# Altium integrated library Xilinx Spartan-3E.IntLib: 220 symbols (part 21 of 30)
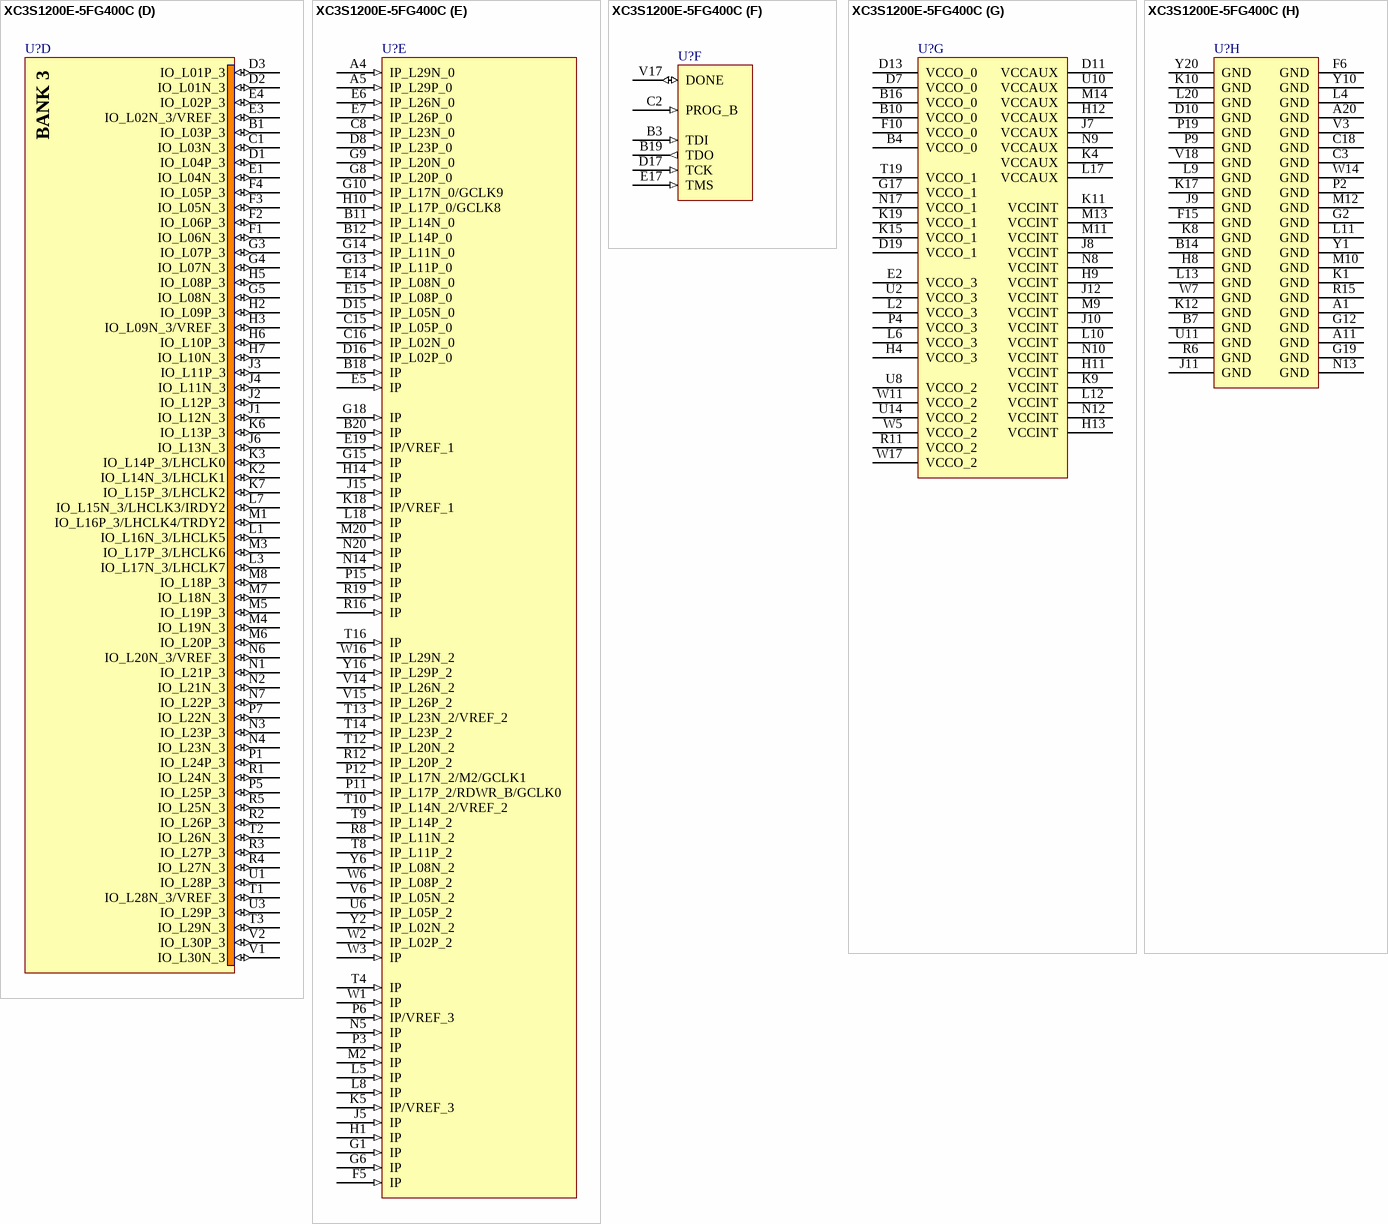
[diagram p214: symbol XC3S1200E-5FG400C]

## XC3S1200E-5FG400C
designator U?
Spartan-3E 1.2V FPGA, 304 User I/Os, 400-Ball FBGA, High Performance, Commercial Grade; Published: 6-Jun-2005; LatestRevisionDate: 30-Oct-2009; LatestRevisionNote: Updated to datasheet version 3.8 Aug-2009.; DatasheetVersion: ver3.8, Aug-2009; PackageVersion: ver1.0, Mar-2005; PackageReference: FG400; Publisher: Altium Limited; PackageDescription: 400-Ball Fine Pitch Ball Grid Array 1.00 mm Pitch (FG400); Code_JEDEC: MS-034-AAH-1; Code_IPC: BGA100P20X20-400; ComponentLink1Description: Spartan-3E Datasheet; ComponentLink1URL: http://www.xilinx.com/support/documentation/data_sheets/ds312.pdf; ComponentLink2Description: FG400 Package Drawing; ComponentLink2URL: http://www.xilinx.com/support/documentation/package_specs/fg400.pdf; ComponentLink3Description: Spartan-3E Documents; ComponentLink3URL: http://www.xilinx.com/support/documentation/spartan-3e.htm; ComponentLink4Description: Xilinx.com Home; ComponentLink4URL: http://www.xilinx.com
footprint FG400 (BGA, 400-Leads, Body 21x21mm, Pitch 1mm)
signal-integrity model XC3S1200E_FG400 (Spartan-3E)
part A pins: A2 IO_L31N_0 (io), A3 IO (io), A6 IO_L25N_0 (io), A7 IO_L25P_0 (io), A8 IO (io), A9 IO_L18N_0/GCLK11 (io), A10 IO_L18P_0/GCLK10 (io), A12 IO (io), A13 IO_L09N_0/VREF_0 (io), A14 IO_L09P_0 (io), A15 IO_L06N_0 (io), A16 IO_L04P_0 (io), A17 IO_L04N_0 (io), A18 IO_L03N_0/VREF_0 (io), A19 IO_L03P_0 (io), B2 IO_L31P_0 (io), B5 IO_L27N_0 (io), B6 IO_L27P_0 (io), B8 IO_L22N_0/VREF_0 (io), B9 IO_L22P_0 (io), B13 IO_L10N_0 (io), B15 IO_L06P_0 (io), B17 IO_L01N_0 (io), C4 IO_L32P_0 (io), C5 IO_L30N_0/VREF_0 (io), C6 IO_L28P_0 (io), C7 IO (io), C9 IO_L21N_0 (io), C10 IO (io), C11 IO/VREF_0 (io), C12 IO_L12N_0 (io), C13 IO_L10P_0 (io), C14 IO_L07N_0 (io), C17 IO_L01P_0 (io), D4 IO_L32N_0/HSWAP (io), D5 IO_L30P_0 (io), D6 IO_L28N_0 (io), D9 IO_L21P_0 (io), D12 IO_L12P_0 (io), D14 IO_L07P_0 (io), E8 IO (io), E9 IO_L19P_0 (io), E10 IO_L16N_0/GCLK7 (io), E11 IO_L16P_0/GCLK6 (io), E12 IO_L13N_0 (io), E13 IO (io), E16 IO (io), F7 IO_L24N_0/VREF_0 (io), F8 IO_L24P_0 (io), F9 IO_L19N_0 (io), F11 IO_L15P_0/GCLK4 (io), F12 IO_L13P_0 (io), F13 IO (io), F14 IO (io), G7 IO (io), G11 IO_L15N_0/GCLK5 (io)
part B pins: C19 IO_L30N_1/LDC2 (io), C20 IO_L30P_1/LDC1 (io), D18 IO_L29N_1/LDC0 (io), D20 IO_L28N_1 (io), E18 IO_L29P_1/HDC (io), E20 IO_L28P_1 (io), F16 IO_L25P_1 (io), F17 IO_L27P_1 (io), F18 IO_L27N_1 (io), F19 IO_L26N_1 (io), F20 IO_L26P_1 (io), G16 IO_L25N_1 (io), G20 IO_L24P_1 (io), H15 IO_L22N_1 (io), H16 IO_L22P_1 (io), H17 IO_L23P_1 (io), H18 IO_L23N_1 (io), H19 IO_L21N_1 (io), H20 IO_L24N_1/VREF_1 (io), J13 IO_L19N_1/A0 (io), J14 IO_L19P_1 (io), J16 IO_L18P_1/A2 (io), J17 IO_L20N_1 (io), J18 IO_L20P_1 (io), J19 IO_L21P_1 (io), J20 IO_L17N_1/A3/RHCLK7 (io), K13 IO_L16P_1/A6/RHCLK4/IRDY1 (io), K14 IO_L16N_1/A5/RHCLK5 (io), K16 IO_L18N_1/A1 (io), K20 IO_L17P_1/A4/RHCLK6 (io), L14 IO_L15N_1/A7/RHCLK3/TRDY1 (io), L15 IO_L15P_1/A8/RHCLK2 (io), L16 IO_L14N_1/A9/RHCLK1 (io), L19 IO_L13N_1/VREF_1 (io), M15 IO_L11P_1 (io), M16 IO_L14P_1/A10/RHCLK0 (io), M17 IO_L12P_1/A12 (io), M18 IO_L12N_1/A11 (io), M19 IO_L13P_1 (io), N15 IO_L11N_1 (io), N16 IO_L09P_1 (io), N18 IO_L10P_1 (io), N19 IO_L10N_1 (io), P16 IO_L09N_1 (io), P17 IO_L07P_1 (io), P18 IO_L07N_1 (io), P20 IO_L08N_1/VREF_1 (io), R17 IO_L05P_1 (io), R18 IO_L05N_1 (io), R20 IO_L08P_1 (io), T17 IO_L02P_1/A14 (io), T18 IO_L02N_1/A13 (io), T20 IO_L06N_1 (io), U17 IO_L01P_1/A16 (io), U18 IO_L01N_1/A15 (io), U19 IO_L03P_1 (io), U20 IO_L06P_1 (io), V19 IO_L03N_1/VREF_1 (io), V20 IO_L04P_1 (io), W20 IO_L04N_1 (io)
part C pins: N11 IO/D5 (io), P8 IO (io), P10 IO_L16N_2/D3/GCLK15 (io), P13 IO (io), P14 IO_L25N_2 (io), R7 IO_L09N_2/VREF_2 (io), R9 IO (io), R10 IO_L16P_2/D4/GCLK14 (io), R13 IO (io), R14 IO_L25P_2 (io), T5 IO_L06P_2 (io), T6 IO_L06N_2 (io), T7 IO_L09P_2 (io), T11 IO/M1 (io), T15 IO_L28N_2 (io), U4 IO_L01P_2/CSO_B (io), U5 IO_L03P_2/DOUT/BUSY (io), U7 IO_L07N_2 (io), U9 IO_L12N_2 (io), U12 IO_L21N_2 (io), U13 IO_L24N_2 (io), U15 IO_L28P_2 (io), U16 IO_L30P_2/A21 (io), V4 IO_L01N_2/INIT_B (io), V5 IO_L03N_2/MOSI/CSI_B (io), V7 IO_L07P_2 (io), V8 IO_L10N_2 (io), V9 IO_L12P_2 (io), V10 IO_L18P_2/D2/GCLK2 (io), V11 IO_L18N_2/D1/GCLK3 (io), V12 IO_L21P_2 (io), V13 IO_L24P_2 (io), V16 IO_L30N_2/A20 (io), W4 IO_L04P_2 (io), W8 IO_L10P_2 (io), W9 IO_L15P_2/D7/GCLK12 (io), W10 IO_L15N_2/D6/GCLK13 (io), W12 IO_L22N_2/VREF_2 (io), W13 IO_L22P_2 (io), W15 IO (io), W18 IO_L31P_2/VS2/A19 (io), W19 IO_L32N_2/CCLK (io), Y3 IO/VREF_2 (io), Y4 IO_L04N_2 (io), Y5 IO (io), Y7 IO (io), Y8 IO_L13N_2 (io), Y9 IO_L13P_2 (io), Y11 IO_L19P_2/M0 (io), Y12 IO_L19N_2/DIN/D0 (io), Y13 IO (io), Y14 IO_L27N_2/A22 (io), Y15 IO_L27P_2/A23 (io), Y17 IO/VREF_2 (io), Y18 IO_L31N_2/VS1/A18 (io), Y19 IO_L32P_2/VS0/A17 (io)
part D pins: B1 IO_L03P_3 (io), C1 IO_L03N_3 (io), D1 IO_L04P_3 (io), D2 IO_L01N_3 (io), D3 IO_L01P_3 (io), E1 IO_L04N_3 (io), E3 IO_L02N_3/VREF_3 (io), E4 IO_L02P_3 (io), F1 IO_L06N_3 (io), F2 IO_L06P_3 (io), F3 IO_L05N_3 (io), F4 IO_L05P_3 (io), G3 IO_L07P_3 (io), G4 IO_L07N_3 (io), G5 IO_L08N_3 (io), H2 IO_L09P_3 (io), H3 IO_L09N_3/VREF_3 (io), H5 IO_L08P_3 (io), H6 IO_L10P_3 (io), H7 IO_L10N_3 (io), J1 IO_L12N_3 (io), J2 IO_L12P_3 (io), J3 IO_L11P_3 (io), J4 IO_L11N_3 (io), J6 IO_L13N_3 (io), K2 IO_L14N_3/LHCLK1 (io), K3 IO_L14P_3/LHCLK0 (io), K6 IO_L13P_3 (io), K7 IO_L15P_3/LHCLK2 (io), L1 IO_L16N_3/LHCLK5 (io), L3 IO_L17N_3/LHCLK7 (io), L7 IO_L15N_3/LHCLK3/IRDY2 (io), M1 IO_L16P_3/LHCLK4/TRDY2 (io), M3 IO_L17P_3/LHCLK6 (io), M4 IO_L19N_3 (io), M5 IO_L19P_3 (io), M6 IO_L20P_3 (io), M7 IO_L18N_3 (io), M8 IO_L18P_3 (io), N1 IO_L21P_3 (io), N2 IO_L21N_3 (io), N3 IO_L23P_3 (io), N4 IO_L23N_3 (io), N6 IO_L20N_3/VREF_3 (io), N7 IO_L22P_3 (io), P1 IO_L24P_3 (io), P5 IO_L25P_3 (io), P7 IO_L22N_3 (io), R1 IO_L24N_3 (io), R2 IO_L26P_3 (io), R3 IO_L27P_3 (io), R4 IO_L27N_3 (io), R5 IO_L25N_3 (io), T1 IO_L28N_3/VREF_3 (io), T2 IO_L26N_3 (io), T3 IO_L29N_3 (io), U1 IO_L28P_3 (io), U3 IO_L29P_3 (io), V1 IO_L30N_3 (io), V2 IO_L30P_3 (io)
part E pins: A4 IP_L29N_0 (in), A5 IP_L29P_0 (in), B11 IP_L14N_0 (in), B12 IP_L14P_0 (in), B18 IP (in), B20 IP (in), C8 IP_L23N_0 (in), C15 IP_L05P_0 (in), C16 IP_L02N_0 (in), D8 IP_L23P_0 (in), D15 IP_L05N_0 (in), D16 IP_L02P_0 (in), E5 IP (in), E6 IP_L26N_0 (in), E7 IP_L26P_0 (in), E14 IP_L08N_0 (in), E15 IP_L08P_0 (in), E19 IP/VREF_1 (in), F5 IP (in), G1 IP (in), G6 IP (in), G8 IP_L20P_0 (in), G9 IP_L20N_0 (in), G10 IP_L17N_0/GCLK9 (in), G13 IP_L11P_0 (in), G14 IP_L11N_0 (in), G15 IP (in), G18 IP (in), H1 IP (in), H10 IP_L17P_0/GCLK8 (in), H14 IP (in), J5 IP (in), J15 IP (in), K5 IP/VREF_3 (in), K18 IP/VREF_1 (in), L5 IP (in), L8 IP (in), L18 IP (in), M2 IP (in), M20 IP (in), N5 IP (in), N14 IP (in), N20 IP (in), P3 IP (in), P6 IP/VREF_3 (in), P11 IP_L17P_2/RDWR_B/GCLK0 (in), P12 IP_L17N_2/M2/GCLK1 (in), P15 IP (in), R8 IP_L11N_2 (in), R12 IP_L20P_2 (in), R16 IP (in), R19 IP (in), T4 IP (in), T8 IP_L11P_2 (in), T9 IP_L14P_2 (in), T10 IP_L14N_2/VREF_2 (in), T12 IP_L20N_2 (in), T13 IP_L23N_2/VREF_2 (in), T14 IP_L23P_2 (in), T16 IP (in), U6 IP_L05P_2 (in), V6 IP_L05N_2 (in), V14 IP_L26N_2 (in), V15 IP_L26P_2 (in), W1 IP (in), W2 IP_L02P_2 (in), W3 IP (in), W6 IP_L08P_2 (in), W16 IP_L29N_2 (in), Y2 IP_L02N_2 (in), Y6 IP_L08N_2 (in), Y16 IP_L29P_2 (in)
part F pins: B3 TDI (in), B19 TDO (out), C2 PROG_B (in), D17 TCK (in), E17 TMS (in), V17 DONE (io)
part G pins: B4 VCCO_0 (power), B10 VCCO_0 (power), B16 VCCO_0 (power), D7 VCCO_0 (power), D11 VCCAUX (power), D13 VCCO_0 (power), D19 VCCO_1 (power), E2 VCCO_3 (power), F10 VCCO_0 (power), G17 VCCO_1 (power), H4 VCCO_3 (power), H9 VCCINT (power), H11 VCCINT (power), H12 VCCAUX (power), H13 VCCINT (power), J7 VCCAUX (power), J8 VCCINT (power), J10 VCCINT (power), J12 VCCINT (power), K4 VCCAUX (power), K9 VCCINT (power), K11 VCCINT (power), K15 VCCO_1 (power), K19 VCCO_1 (power), L2 VCCO_3 (power), L6 VCCO_3 (power), L10 VCCINT (power), L12 VCCINT (power), L17 VCCAUX (power), M9 VCCINT (power), M11 VCCINT (power), M13 VCCINT (power), M14 VCCAUX (power), N8 VCCINT (power), N9 VCCAUX (power), N10 VCCINT (power), N12 VCCINT (power), N17 VCCO_1 (power), P4 VCCO_3 (power), R11 VCCO_2 (power), T19 VCCO_1 (power), U2 VCCO_3 (power), U8 VCCO_2 (power), U10 VCCAUX (power), U14 VCCO_2 (power), W5 VCCO_2 (power), W11 VCCO_2 (power), W17 VCCO_2 (power)
part H pins: A1 GND (power), A11 GND (power), A20 GND (power), B7 GND (power), B14 GND (power), C3 GND (power), C18 GND (power), D10 GND (power), F6 GND (power), F15 GND (power), G2 GND (power), G12 GND (power), G19 GND (power), H8 GND (power), J9 GND (power), J11 GND (power), K1 GND (power), K8 GND (power), K10 GND (power), K12 GND (power), K17 GND (power), L4 GND (power), L9 GND (power), L11 GND (power), L13 GND (power), L20 GND (power), M10 GND (power), M12 GND (power), N13 GND (power), P2 GND (power), P9 GND (power), P19 GND (power), R6 GND (power), R15 GND (power), U11 GND (power), V3 GND (power), V18 GND (power), W7 GND (power), W14 GND (power), Y1 GND (power), Y10 GND (power), Y20 GND (power)
part A text: BANK 0
part B text: BANK 1
part C text: BANK 2
part D text: BANK 3

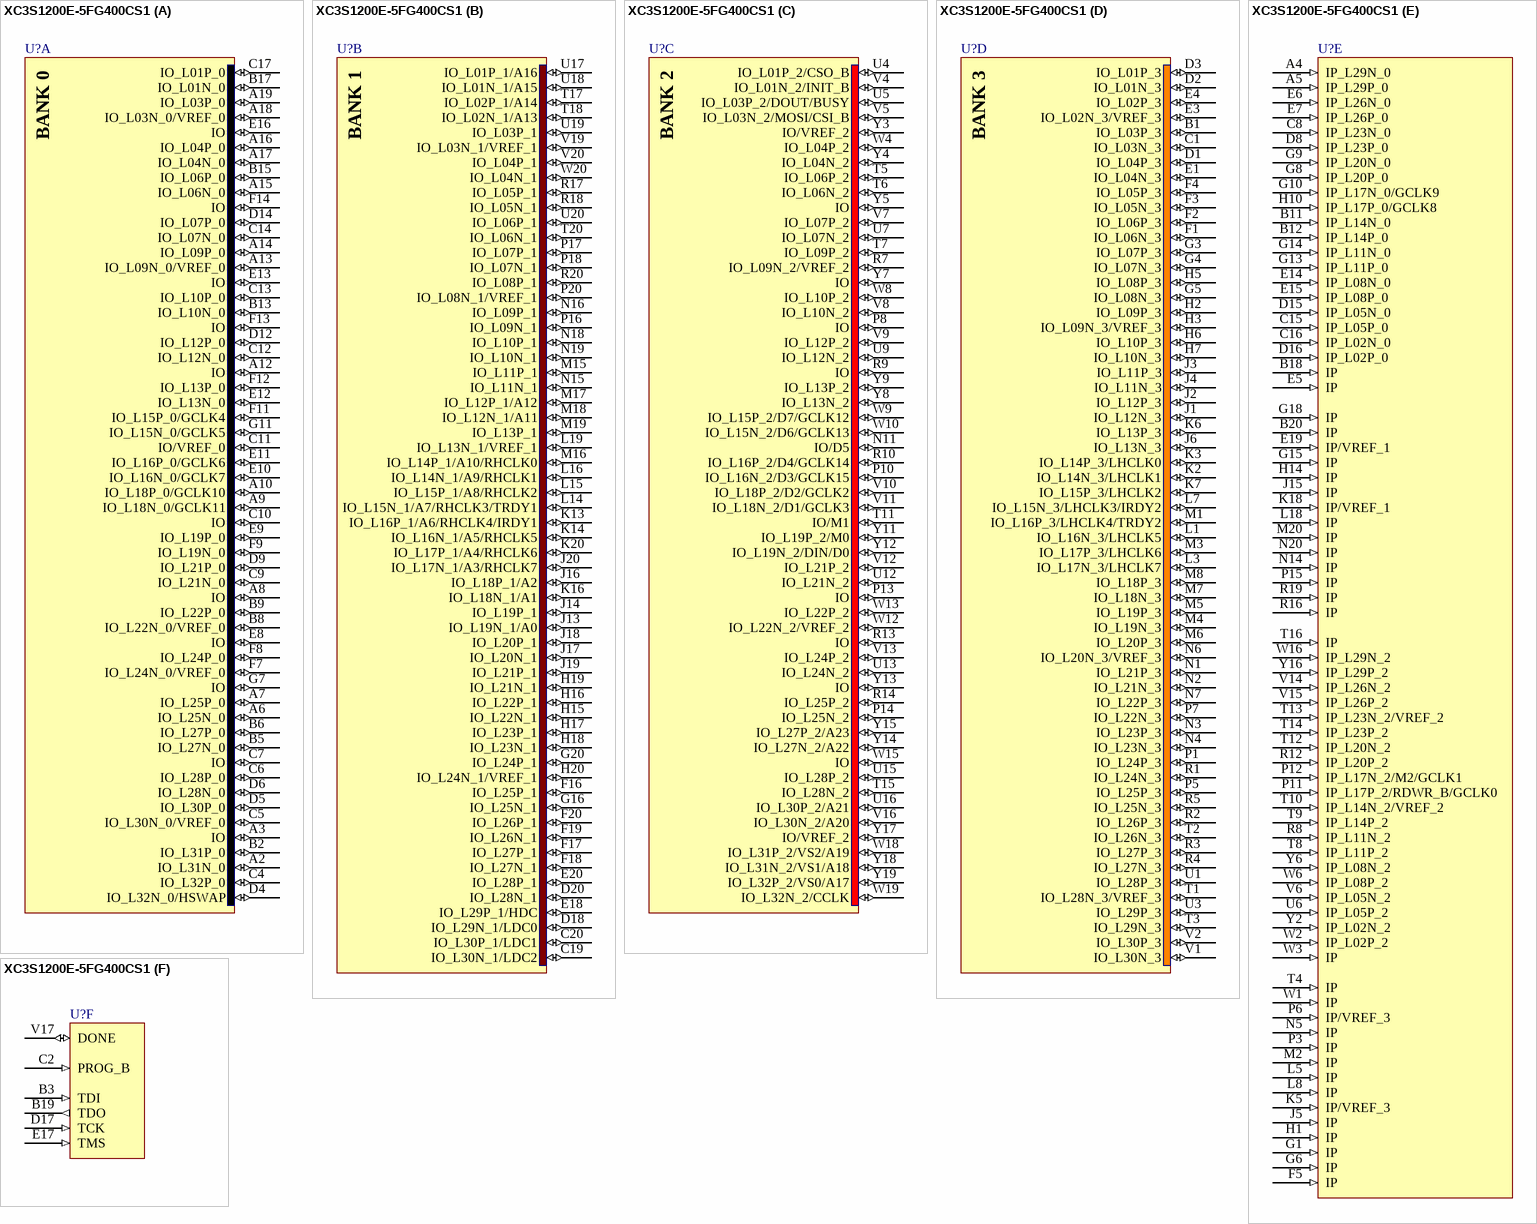
[diagram p128: symbol XC3S1200E-5FG400CS1]

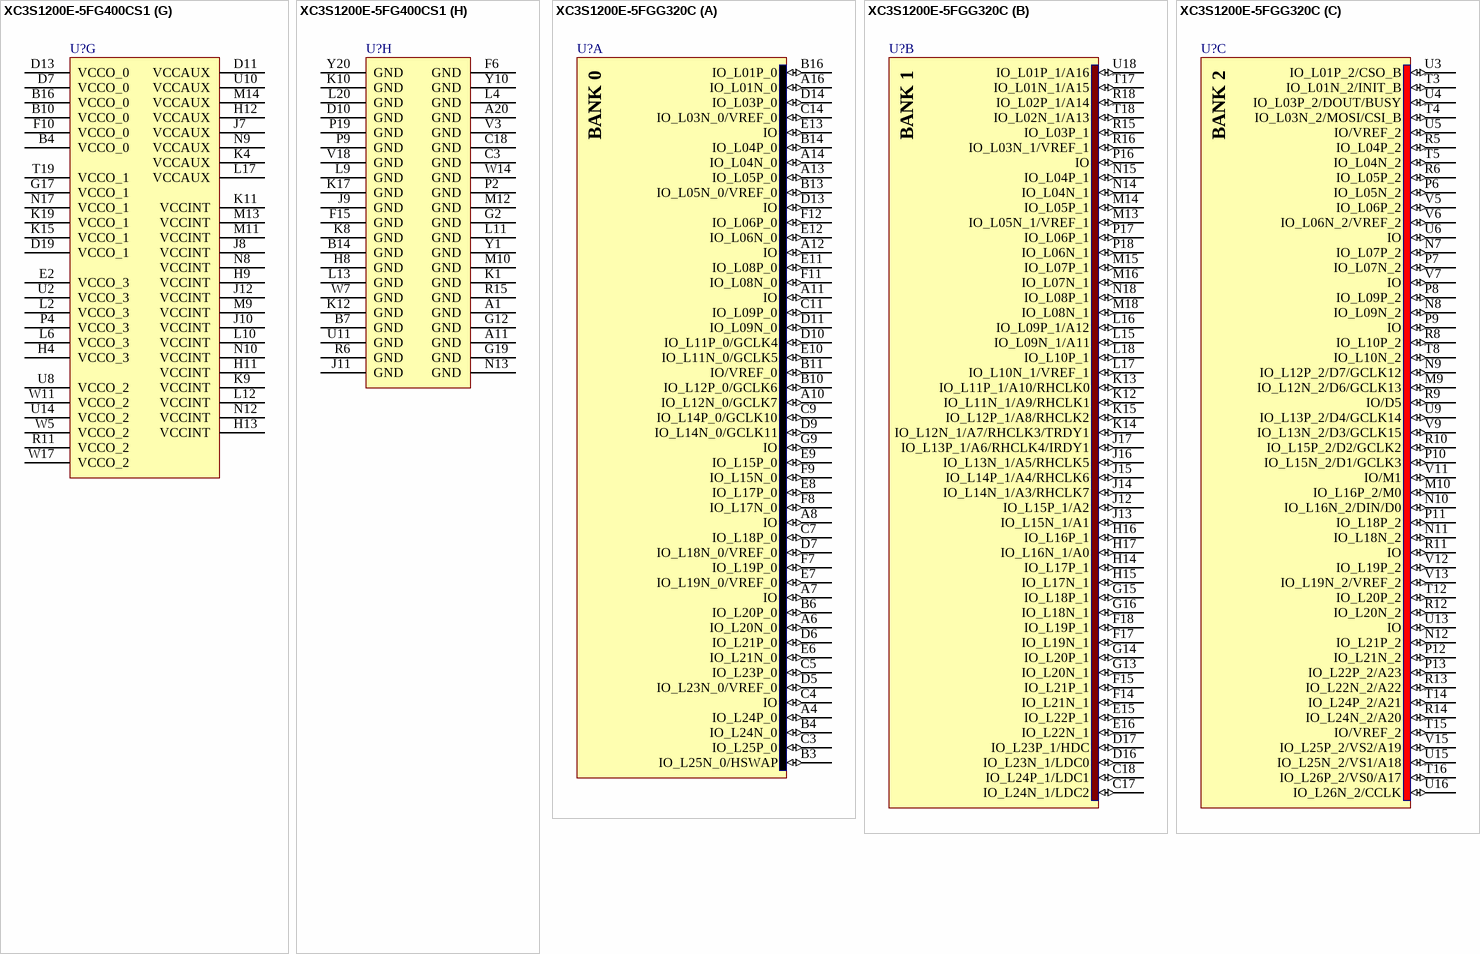
[diagram p129: symbols XC3S1200E-5FG400CS1 to XC3S1200E-5FGG320C]

## XC3S1200E-5FG400CS1
designator U?
Spartan-3E 1.2V FPGA, 304 User I/Os, 400-Ball FBGA, High Performance, Commercial Grade, Stepping 1; Published: 14-May-2007; LatestRevisionDate: 30-Oct-2009; LatestRevisionNote: Updated to datasheet version 3.8 Aug-2009.; DatasheetVersion: ver3.8, Aug-2009; PackageVersion: ver1.0, Mar-2005; PackageReference: FG400; Publisher: Altium Limited; PackageDescription: 400-Ball Fine Pitch Ball Grid Array 1.00 mm Pitch (FG400); Code_JEDEC: MS-034-AAH-1; Code_IPC: BGA100P20X20-400; ComponentLink1Description: Spartan-3E Datasheet; ComponentLink1URL: http://www.xilinx.com/support/documentation/data_sheets/ds312.pdf; ComponentLink2Description: FG400 Package Drawing; ComponentLink2URL: http://www.xilinx.com/support/documentation/package_specs/fg400.pdf; ComponentLink3Description: Spartan-3E Documents; ComponentLink3URL: http://www.xilinx.com/support/documentation/spartan-3e.htm; ComponentLink4Description: Xilinx.com Home; ComponentLink4URL: http://www.xilinx.com
footprint FG400 (BGA, 400-Leads, Body 21x21mm, Pitch 1mm)
signal-integrity model XC3S1200E_FG400 (Spartan-3E)
part A pins: A2 IO_L31N_0 (io), A3 IO (io), A6 IO_L25N_0 (io), A7 IO_L25P_0 (io), A8 IO (io), A9 IO_L18N_0/GCLK11 (io), A10 IO_L18P_0/GCLK10 (io), A12 IO (io), A13 IO_L09N_0/VREF_0 (io), A14 IO_L09P_0 (io), A15 IO_L06N_0 (io), A16 IO_L04P_0 (io), A17 IO_L04N_0 (io), A18 IO_L03N_0/VREF_0 (io), A19 IO_L03P_0 (io), B2 IO_L31P_0 (io), B5 IO_L27N_0 (io), B6 IO_L27P_0 (io), B8 IO_L22N_0/VREF_0 (io), B9 IO_L22P_0 (io), B13 IO_L10N_0 (io), B15 IO_L06P_0 (io), B17 IO_L01N_0 (io), C4 IO_L32P_0 (io), C5 IO_L30N_0/VREF_0 (io), C6 IO_L28P_0 (io), C7 IO (io), C9 IO_L21N_0 (io), C10 IO (io), C11 IO/VREF_0 (io), C12 IO_L12N_0 (io), C13 IO_L10P_0 (io), C14 IO_L07N_0 (io), C17 IO_L01P_0 (io), D4 IO_L32N_0/HSWAP (io), D5 IO_L30P_0 (io), D6 IO_L28N_0 (io), D9 IO_L21P_0 (io), D12 IO_L12P_0 (io), D14 IO_L07P_0 (io), E8 IO (io), E9 IO_L19P_0 (io), E10 IO_L16N_0/GCLK7 (io), E11 IO_L16P_0/GCLK6 (io), E12 IO_L13N_0 (io), E13 IO (io), E16 IO (io), F7 IO_L24N_0/VREF_0 (io), F8 IO_L24P_0 (io), F9 IO_L19N_0 (io), F11 IO_L15P_0/GCLK4 (io), F12 IO_L13P_0 (io), F13 IO (io), F14 IO (io), G7 IO (io), G11 IO_L15N_0/GCLK5 (io)
part B pins: C19 IO_L30N_1/LDC2 (io), C20 IO_L30P_1/LDC1 (io), D18 IO_L29N_1/LDC0 (io), D20 IO_L28N_1 (io), E18 IO_L29P_1/HDC (io), E20 IO_L28P_1 (io), F16 IO_L25P_1 (io), F17 IO_L27P_1 (io), F18 IO_L27N_1 (io), F19 IO_L26N_1 (io), F20 IO_L26P_1 (io), G16 IO_L25N_1 (io), G20 IO_L24P_1 (io), H15 IO_L22N_1 (io), H16 IO_L22P_1 (io), H17 IO_L23P_1 (io), H18 IO_L23N_1 (io), H19 IO_L21N_1 (io), H20 IO_L24N_1/VREF_1 (io), J13 IO_L19N_1/A0 (io), J14 IO_L19P_1 (io), J16 IO_L18P_1/A2 (io), J17 IO_L20N_1 (io), J18 IO_L20P_1 (io), J19 IO_L21P_1 (io), J20 IO_L17N_1/A3/RHCLK7 (io), K13 IO_L16P_1/A6/RHCLK4/IRDY1 (io), K14 IO_L16N_1/A5/RHCLK5 (io), K16 IO_L18N_1/A1 (io), K20 IO_L17P_1/A4/RHCLK6 (io), L14 IO_L15N_1/A7/RHCLK3/TRDY1 (io), L15 IO_L15P_1/A8/RHCLK2 (io), L16 IO_L14N_1/A9/RHCLK1 (io), L19 IO_L13N_1/VREF_1 (io), M15 IO_L11P_1 (io), M16 IO_L14P_1/A10/RHCLK0 (io), M17 IO_L12P_1/A12 (io), M18 IO_L12N_1/A11 (io), M19 IO_L13P_1 (io), N15 IO_L11N_1 (io), N16 IO_L09P_1 (io), N18 IO_L10P_1 (io), N19 IO_L10N_1 (io), P16 IO_L09N_1 (io), P17 IO_L07P_1 (io), P18 IO_L07N_1 (io), P20 IO_L08N_1/VREF_1 (io), R17 IO_L05P_1 (io), R18 IO_L05N_1 (io), R20 IO_L08P_1 (io), T17 IO_L02P_1/A14 (io), T18 IO_L02N_1/A13 (io), T20 IO_L06N_1 (io), U17 IO_L01P_1/A16 (io), U18 IO_L01N_1/A15 (io), U19 IO_L03P_1 (io), U20 IO_L06P_1 (io), V19 IO_L03N_1/VREF_1 (io), V20 IO_L04P_1 (io), W20 IO_L04N_1 (io)
part C pins: N11 IO/D5 (io), P8 IO (io), P10 IO_L16N_2/D3/GCLK15 (io), P13 IO (io), P14 IO_L25N_2 (io), R7 IO_L09N_2/VREF_2 (io), R9 IO (io), R10 IO_L16P_2/D4/GCLK14 (io), R13 IO (io), R14 IO_L25P_2 (io), T5 IO_L06P_2 (io), T6 IO_L06N_2 (io), T7 IO_L09P_2 (io), T11 IO/M1 (io), T15 IO_L28N_2 (io), U4 IO_L01P_2/CSO_B (io), U5 IO_L03P_2/DOUT/BUSY (io), U7 IO_L07N_2 (io), U9 IO_L12N_2 (io), U12 IO_L21N_2 (io), U13 IO_L24N_2 (io), U15 IO_L28P_2 (io), U16 IO_L30P_2/A21 (io), V4 IO_L01N_2/INIT_B (io), V5 IO_L03N_2/MOSI/CSI_B (io), V7 IO_L07P_2 (io), V8 IO_L10N_2 (io), V9 IO_L12P_2 (io), V10 IO_L18P_2/D2/GCLK2 (io), V11 IO_L18N_2/D1/GCLK3 (io), V12 IO_L21P_2 (io), V13 IO_L24P_2 (io), V16 IO_L30N_2/A20 (io), W4 IO_L04P_2 (io), W8 IO_L10P_2 (io), W9 IO_L15P_2/D7/GCLK12 (io), W10 IO_L15N_2/D6/GCLK13 (io), W12 IO_L22N_2/VREF_2 (io), W13 IO_L22P_2 (io), W15 IO (io), W18 IO_L31P_2/VS2/A19 (io), W19 IO_L32N_2/CCLK (io), Y3 IO/VREF_2 (io), Y4 IO_L04N_2 (io), Y5 IO (io), Y7 IO (io), Y8 IO_L13N_2 (io), Y9 IO_L13P_2 (io), Y11 IO_L19P_2/M0 (io), Y12 IO_L19N_2/DIN/D0 (io), Y13 IO (io), Y14 IO_L27N_2/A22 (io), Y15 IO_L27P_2/A23 (io), Y17 IO/VREF_2 (io), Y18 IO_L31N_2/VS1/A18 (io), Y19 IO_L32P_2/VS0/A17 (io)
part D pins: B1 IO_L03P_3 (io), C1 IO_L03N_3 (io), D1 IO_L04P_3 (io), D2 IO_L01N_3 (io), D3 IO_L01P_3 (io), E1 IO_L04N_3 (io), E3 IO_L02N_3/VREF_3 (io), E4 IO_L02P_3 (io), F1 IO_L06N_3 (io), F2 IO_L06P_3 (io), F3 IO_L05N_3 (io), F4 IO_L05P_3 (io), G3 IO_L07P_3 (io), G4 IO_L07N_3 (io), G5 IO_L08N_3 (io), H2 IO_L09P_3 (io), H3 IO_L09N_3/VREF_3 (io), H5 IO_L08P_3 (io), H6 IO_L10P_3 (io), H7 IO_L10N_3 (io), J1 IO_L12N_3 (io), J2 IO_L12P_3 (io), J3 IO_L11P_3 (io), J4 IO_L11N_3 (io), J6 IO_L13N_3 (io), K2 IO_L14N_3/LHCLK1 (io), K3 IO_L14P_3/LHCLK0 (io), K6 IO_L13P_3 (io), K7 IO_L15P_3/LHCLK2 (io), L1 IO_L16N_3/LHCLK5 (io), L3 IO_L17N_3/LHCLK7 (io), L7 IO_L15N_3/LHCLK3/IRDY2 (io), M1 IO_L16P_3/LHCLK4/TRDY2 (io), M3 IO_L17P_3/LHCLK6 (io), M4 IO_L19N_3 (io), M5 IO_L19P_3 (io), M6 IO_L20P_3 (io), M7 IO_L18N_3 (io), M8 IO_L18P_3 (io), N1 IO_L21P_3 (io), N2 IO_L21N_3 (io), N3 IO_L23P_3 (io), N4 IO_L23N_3 (io), N6 IO_L20N_3/VREF_3 (io), N7 IO_L22P_3 (io), P1 IO_L24P_3 (io), P5 IO_L25P_3 (io), P7 IO_L22N_3 (io), R1 IO_L24N_3 (io), R2 IO_L26P_3 (io), R3 IO_L27P_3 (io), R4 IO_L27N_3 (io), R5 IO_L25N_3 (io), T1 IO_L28N_3/VREF_3 (io), T2 IO_L26N_3 (io), T3 IO_L29N_3 (io), U1 IO_L28P_3 (io), U3 IO_L29P_3 (io), V1 IO_L30N_3 (io), V2 IO_L30P_3 (io)
part E pins: A4 IP_L29N_0 (in), A5 IP_L29P_0 (in), B11 IP_L14N_0 (in), B12 IP_L14P_0 (in), B18 IP (in), B20 IP (in), C8 IP_L23N_0 (in), C15 IP_L05P_0 (in), C16 IP_L02N_0 (in), D8 IP_L23P_0 (in), D15 IP_L05N_0 (in), D16 IP_L02P_0 (in), E5 IP (in), E6 IP_L26N_0 (in), E7 IP_L26P_0 (in), E14 IP_L08N_0 (in), E15 IP_L08P_0 (in), E19 IP/VREF_1 (in), F5 IP (in), G1 IP (in), G6 IP (in), G8 IP_L20P_0 (in), G9 IP_L20N_0 (in), G10 IP_L17N_0/GCLK9 (in), G13 IP_L11P_0 (in), G14 IP_L11N_0 (in), G15 IP (in), G18 IP (in), H1 IP (in), H10 IP_L17P_0/GCLK8 (in), H14 IP (in), J5 IP (in), J15 IP (in), K5 IP/VREF_3 (in), K18 IP/VREF_1 (in), L5 IP (in), L8 IP (in), L18 IP (in), M2 IP (in), M20 IP (in), N5 IP (in), N14 IP (in), N20 IP (in), P3 IP (in), P6 IP/VREF_3 (in), P11 IP_L17P_2/RDWR_B/GCLK0 (in), P12 IP_L17N_2/M2/GCLK1 (in), P15 IP (in), R8 IP_L11N_2 (in), R12 IP_L20P_2 (in), R16 IP (in), R19 IP (in), T4 IP (in), T8 IP_L11P_2 (in), T9 IP_L14P_2 (in), T10 IP_L14N_2/VREF_2 (in), T12 IP_L20N_2 (in), T13 IP_L23N_2/VREF_2 (in), T14 IP_L23P_2 (in), T16 IP (in), U6 IP_L05P_2 (in), V6 IP_L05N_2 (in), V14 IP_L26N_2 (in), V15 IP_L26P_2 (in), W1 IP (in), W2 IP_L02P_2 (in), W3 IP (in), W6 IP_L08P_2 (in), W16 IP_L29N_2 (in), Y2 IP_L02N_2 (in), Y6 IP_L08N_2 (in), Y16 IP_L29P_2 (in)
part F pins: B3 TDI (in), B19 TDO (out), C2 PROG_B (in), D17 TCK (in), E17 TMS (in), V17 DONE (io)
part G pins: B4 VCCO_0 (power), B10 VCCO_0 (power), B16 VCCO_0 (power), D7 VCCO_0 (power), D11 VCCAUX (power), D13 VCCO_0 (power), D19 VCCO_1 (power), E2 VCCO_3 (power), F10 VCCO_0 (power), G17 VCCO_1 (power), H4 VCCO_3 (power), H9 VCCINT (power), H11 VCCINT (power), H12 VCCAUX (power), H13 VCCINT (power), J7 VCCAUX (power), J8 VCCINT (power), J10 VCCINT (power), J12 VCCINT (power), K4 VCCAUX (power), K9 VCCINT (power), K11 VCCINT (power), K15 VCCO_1 (power), K19 VCCO_1 (power), L2 VCCO_3 (power), L6 VCCO_3 (power), L10 VCCINT (power), L12 VCCINT (power), L17 VCCAUX (power), M9 VCCINT (power), M11 VCCINT (power), M13 VCCINT (power), M14 VCCAUX (power), N8 VCCINT (power), N9 VCCAUX (power), N10 VCCINT (power), N12 VCCINT (power), N17 VCCO_1 (power), P4 VCCO_3 (power), R11 VCCO_2 (power), T19 VCCO_1 (power), U2 VCCO_3 (power), U8 VCCO_2 (power), U10 VCCAUX (power), U14 VCCO_2 (power), W5 VCCO_2 (power), W11 VCCO_2 (power), W17 VCCO_2 (power)
part H pins: A1 GND (power), A11 GND (power), A20 GND (power), B7 GND (power), B14 GND (power), C3 GND (power), C18 GND (power), D10 GND (power), F6 GND (power), F15 GND (power), G2 GND (power), G12 GND (power), G19 GND (power), H8 GND (power), J9 GND (power), J11 GND (power), K1 GND (power), K8 GND (power), K10 GND (power), K12 GND (power), K17 GND (power), L4 GND (power), L9 GND (power), L11 GND (power), L13 GND (power), L20 GND (power), M10 GND (power), M12 GND (power), N13 GND (power), P2 GND (power), P9 GND (power), P19 GND (power), R6 GND (power), R15 GND (power), U11 GND (power), V3 GND (power), V18 GND (power), W7 GND (power), W14 GND (power), Y1 GND (power), Y10 GND (power), Y20 GND (power)
part A text: BANK 0
part B text: BANK 1
part C text: BANK 2
part D text: BANK 3

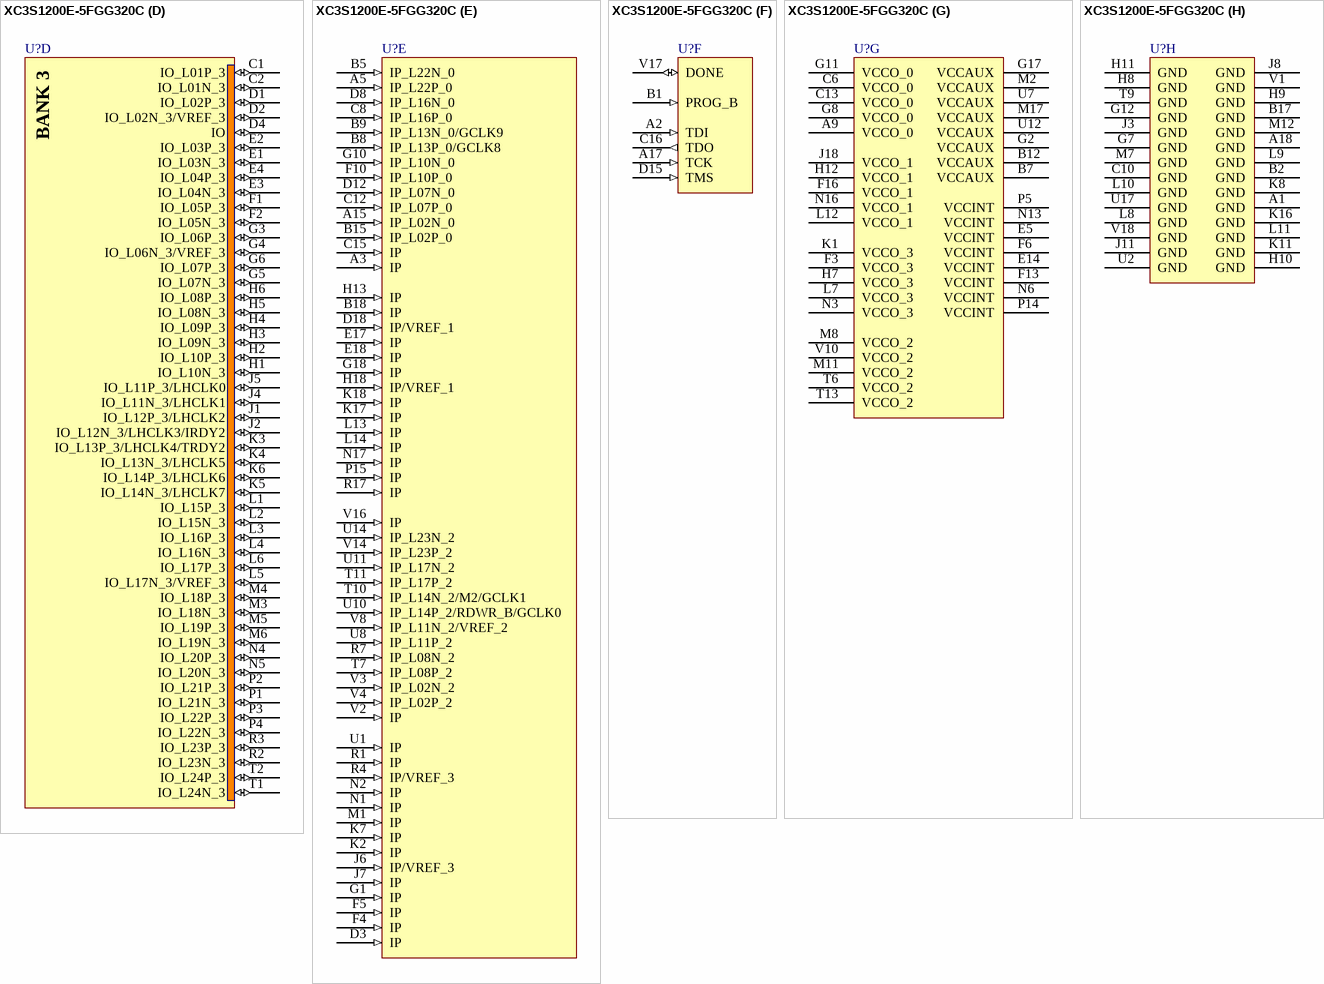
[diagram p130: symbol XC3S1200E-5FGG320C]

## XC3S1200E-5FGG320C
designator U?
Spartan-3E 1.2V FPGA, 250 User I/Os, 320-Ball FBGA, High Performance, Commercial Grade, Pb-Free; Published: 6-Jun-2005; LatestRevisionDate: 30-Oct-2009; LatestRevisionNote: Updated to datasheet version 3.8 Aug-2009.; DatasheetVersion: ver3.8, Aug-2009; PackageVersion: ver1.2.1, Mar-2005; PackageReference: FGG320; Publisher: Altium Limited; PackageDescription: 320-Ball Fine Pitch Ball Grid Array (FGG320) - Pb-Free; Supplier 1: Digi-Key; Supplier Part Number 1: XC3S1200E-5FGG320C-ND; Code_JEDEC: MS-034-AAG-1; ComponentLink1Description: Spartan-3E Datasheet; ComponentLink1URL: http://www.xilinx.com/support/documentation/data_sheets/ds312.pdf; ComponentLink2Description: FGG320 Package Drawing; ComponentLink2URL: http://www.xilinx.com/support/documentation/package_specs/fg320.pdf; ComponentLink3Description: Spartan-3E Documents; ComponentLink3URL: http://www.xilinx.com/support/documentation/spartan-3e.htm; ComponentLink4Description: Xilinx.com Home; ComponentLink4URL: http://www.xilinx.com
footprint FGG320 (BGA, 320-Leads, Body 19x19mm, Pitch 1mm)
signal-integrity model XC3S1200E_FGG320 (Spartan-3E)
part A pins: A4 IO_L24P_0 (io), A6 IO_L20N_0 (io), A7 IO (io), A8 IO (io), A10 IO_L12N_0/GCLK7 (io), A11 IO (io), A12 IO (io), A13 IO_L05P_0 (io), A14 IO_L04N_0 (io), A16 IO_L01N_0 (io), B3 IO_L25N_0/HSWAP (io), B4 IO_L24N_0 (io), B6 IO_L20P_0 (io), B10 IO_L12P_0/GCLK6 (io), B11 IO/VREF_0 (io), B13 IO_L05N_0/VREF_0 (io), B14 IO_L04P_0 (io), B16 IO_L01P_0 (io), C3 IO_L25P_0 (io), C4 IO (io), C5 IO_L23P_0 (io), C7 IO_L18P_0 (io), C9 IO_L14P_0/GCLK10 (io), C11 IO_L09P_0 (io), C14 IO_L03N_0/VREF_0 (io), D5 IO_L23N_0/VREF_0 (io), D6 IO_L21P_0 (io), D7 IO_L18N_0/VREF_0 (io), D9 IO_L14N_0/GCLK11 (io), D10 IO_L11P_0/GCLK4 (io), D11 IO_L09N_0 (io), D13 IO (io), D14 IO_L03P_0 (io), E6 IO_L21N_0 (io), E7 IO_L19N_0/VREF_0 (io), E8 IO_L17P_0 (io), E9 IO_L15P_0 (io), E10 IO_L11N_0/GCLK5 (io), E11 IO_L08P_0 (io), E12 IO_L06N_0 (io), E13 IO (io), F7 IO_L19P_0 (io), F8 IO_L17N_0 (io), F9 IO_L15N_0 (io), F11 IO_L08N_0 (io), F12 IO_L06P_0 (io), G9 IO (io)
part B pins: C17 IO_L24N_1/LDC2 (io), C18 IO_L24P_1/LDC1 (io), D16 IO_L23N_1/LDC0 (io), D17 IO_L23P_1/HDC (io), E15 IO_L22P_1 (io), E16 IO_L22N_1 (io), F14 IO_L21N_1 (io), F15 IO_L21P_1 (io), F17 IO_L19N_1 (io), F18 IO_L19P_1 (io), G13 IO_L20N_1 (io), G14 IO_L20P_1 (io), G15 IO_L18P_1 (io), G16 IO_L18N_1 (io), H14 IO_L17P_1 (io), H15 IO_L17N_1 (io), H16 IO_L16P_1 (io), H17 IO_L16N_1/A0 (io), J12 IO_L15P_1/A2 (io), J13 IO_L15N_1/A1 (io), J14 IO_L14N_1/A3/RHCLK7 (io), J15 IO_L14P_1/A4/RHCLK6 (io), J16 IO_L13N_1/A5/RHCLK5 (io), J17 IO_L13P_1/A6/RHCLK4/IRDY1 (io), K12 IO_L11N_1/A9/RHCLK1 (io), K13 IO_L11P_1/A10/RHCLK0 (io), K14 IO_L12N_1/A7/RHCLK3/TRDY1 (io), K15 IO_L12P_1/A8/RHCLK2 (io), L15 IO_L09N_1/A11 (io), L16 IO_L09P_1/A12 (io), L17 IO_L10N_1/VREF_1 (io), L18 IO_L10P_1 (io), M13 IO_L05N_1/VREF_1 (io), M14 IO_L05P_1 (io), M15 IO_L07P_1 (io), M16 IO_L07N_1 (io), M18 IO_L08N_1 (io), N14 IO_L04N_1 (io), N15 IO_L04P_1 (io), N18 IO_L08P_1 (io), P16 IO (io), P17 IO_L06P_1 (io), P18 IO_L06N_1 (io), R15 IO_L03P_1 (io), R16 IO_L03N_1/VREF_1 (io), R18 IO_L02P_1/A14 (io), T17 IO_L01N_1/A15 (io), T18 IO_L02N_1/A13 (io), U18 IO_L01P_1/A16 (io)
part C pins: M9 IO_L12N_2/D6/GCLK13 (io), M10 IO_L16P_2/M0 (io), N7 IO_L07P_2 (io), N8 IO_L09N_2 (io), N9 IO_L12P_2/D7/GCLK12 (io), N10 IO_L16N_2/DIN/D0 (io), N11 IO_L18N_2 (io), N12 IO_L21P_2 (io), P6 IO_L05N_2 (io), P7 IO_L07N_2 (io), P8 IO_L09P_2 (io), P9 IO (io), P10 IO_L15N_2/D1/GCLK3 (io), P11 IO_L18P_2 (io), P12 IO_L21N_2 (io), P13 IO_L22P_2/A23 (io), R5 IO_L04P_2 (io), R6 IO_L05P_2 (io), R8 IO_L10P_2 (io), R9 IO/D5 (io), R10 IO_L15P_2/D2/GCLK2 (io), R11 IO (io), R12 IO_L20N_2 (io), R13 IO_L22N_2/A22 (io), R14 IO_L24N_2/A20 (io), T3 IO_L01N_2/INIT_B (io), T4 IO_L03N_2/MOSI/CSI_B (io), T5 IO_L04N_2 (io), T8 IO_L10N_2 (io), T12 IO_L20P_2 (io), T14 IO_L24P_2/A21 (io), T15 IO/VREF_2 (io), T16 IO_L26P_2/VS0/A17 (io), U3 IO_L01P_2/CSO_B (io), U4 IO_L03P_2/DOUT/BUSY (io), U5 IO/VREF_2 (io), U6 IO (io), U9 IO_L13P_2/D4/GCLK14 (io), U13 IO (io), U15 IO_L25N_2/VS1/A18 (io), U16 IO_L26N_2/CCLK (io), V5 IO_L06P_2 (io), V6 IO_L06N_2/VREF_2 (io), V7 IO (io), V9 IO_L13N_2/D3/GCLK15 (io), V11 IO/M1 (io), V12 IO_L19P_2 (io), V13 IO_L19N_2/VREF_2 (io), V15 IO_L25P_2/VS2/A19 (io)
part D pins: C1 IO_L01P_3 (io), C2 IO_L01N_3 (io), D1 IO_L02P_3 (io), D2 IO_L02N_3/VREF_3 (io), D4 IO (io), E1 IO_L03N_3 (io), E2 IO_L03P_3 (io), E3 IO_L04N_3 (io), E4 IO_L04P_3 (io), F1 IO_L05P_3 (io), F2 IO_L05N_3 (io), G3 IO_L06P_3 (io), G4 IO_L06N_3/VREF_3 (io), G5 IO_L07N_3 (io), G6 IO_L07P_3 (io), H1 IO_L10N_3 (io), H2 IO_L10P_3 (io), H3 IO_L09N_3 (io), H4 IO_L09P_3 (io), H5 IO_L08N_3 (io), H6 IO_L08P_3 (io), J1 IO_L12P_3/LHCLK2 (io), J2 IO_L12N_3/LHCLK3/IRDY2 (io), J4 IO_L11N_3/LHCLK1 (io), J5 IO_L11P_3/LHCLK0 (io), K3 IO_L13P_3/LHCLK4/TRDY2 (io), K4 IO_L13N_3/LHCLK5 (io), K5 IO_L14N_3/LHCLK7 (io), K6 IO_L14P_3/LHCLK6 (io), L1 IO_L15P_3 (io), L2 IO_L15N_3 (io), L3 IO_L16P_3 (io), L4 IO_L16N_3 (io), L5 IO_L17N_3/VREF_3 (io), L6 IO_L17P_3 (io), M3 IO_L18N_3 (io), M4 IO_L18P_3 (io), M5 IO_L19P_3 (io), M6 IO_L19N_3 (io), N4 IO_L20P_3 (io), N5 IO_L20N_3 (io), P1 IO_L21N_3 (io), P2 IO_L21P_3 (io), P3 IO_L22P_3 (io), P4 IO_L22N_3 (io), R2 IO_L23N_3 (io), R3 IO_L23P_3 (io), T1 IO_L24N_3 (io), T2 IO_L24P_3 (io)
part E pins: A3 IP (in), A5 IP_L22P_0 (in), A15 IP_L02N_0 (in), B5 IP_L22N_0 (in), B8 IP_L13P_0/GCLK8 (in), B9 IP_L13N_0/GCLK9 (in), B15 IP_L02P_0 (in), B18 IP (in), C8 IP_L16P_0 (in), C12 IP_L07P_0 (in), C15 IP (in), D3 IP (in), D8 IP_L16N_0 (in), D12 IP_L07N_0 (in), D18 IP/VREF_1 (in), E17 IP (in), E18 IP (in), F4 IP (in), F5 IP (in), F10 IP_L10P_0 (in), G1 IP (in), G10 IP_L10N_0 (in), G18 IP (in), H13 IP (in), H18 IP/VREF_1 (in), J6 IP/VREF_3 (in), J7 IP (in), K2 IP (in), K7 IP (in), K17 IP (in), K18 IP (in), L13 IP (in), L14 IP (in), M1 IP (in), N1 IP (in), N2 IP (in), N17 IP (in), P15 IP (in), R1 IP (in), R4 IP/VREF_3 (in), R7 IP_L08N_2 (in), R17 IP (in), T7 IP_L08P_2 (in), T10 IP_L14N_2/M2/GCLK1 (in), T11 IP_L17P_2 (in), U1 IP (in), U8 IP_L11P_2 (in), U10 IP_L14P_2/RDWR_B/GCLK0 (in), U11 IP_L17N_2 (in), U14 IP_L23N_2 (in), V2 IP (in), V3 IP_L02N_2 (in), V4 IP_L02P_2 (in), V8 IP_L11N_2/VREF_2 (in), V14 IP_L23P_2 (in), V16 IP (in)
part F pins: A2 TDI (in), A17 TCK (in), B1 PROG_B (in), C16 TDO (out), D15 TMS (in), V17 DONE (io)
part G pins: A9 VCCO_0 (power), B7 VCCAUX (power), B12 VCCAUX (power), C6 VCCO_0 (power), C13 VCCO_0 (power), E5 VCCINT (power), E14 VCCINT (power), F3 VCCO_3 (power), F6 VCCINT (power), F13 VCCINT (power), F16 VCCO_1 (power), G2 VCCAUX (power), G8 VCCO_0 (power), G11 VCCO_0 (power), G17 VCCAUX (power), H7 VCCO_3 (power), H12 VCCO_1 (power), J18 VCCO_1 (power), K1 VCCO_3 (power), L7 VCCO_3 (power), L12 VCCO_1 (power), M2 VCCAUX (power), M8 VCCO_2 (power), M11 VCCO_2 (power), M17 VCCAUX (power), N3 VCCO_3 (power), N6 VCCINT (power), N13 VCCINT (power), N16 VCCO_1 (power), P5 VCCINT (power), P14 VCCINT (power), T6 VCCO_2 (power), T13 VCCO_2 (power), U7 VCCAUX (power), U12 VCCAUX (power), V10 VCCO_2 (power)
part H pins: A1 GND (power), A18 GND (power), B2 GND (power), B17 GND (power), C10 GND (power), G7 GND (power), G12 GND (power), H8 GND (power), H9 GND (power), H10 GND (power), H11 GND (power), J3 GND (power), J8 GND (power), J11 GND (power), K8 GND (power), K11 GND (power), K16 GND (power), L8 GND (power), L9 GND (power), L10 GND (power), L11 GND (power), M7 GND (power), M12 GND (power), T9 GND (power), U2 GND (power), U17 GND (power), V1 GND (power), V18 GND (power)
part A text: BANK 0
part B text: BANK 1
part C text: BANK 2
part D text: BANK 3

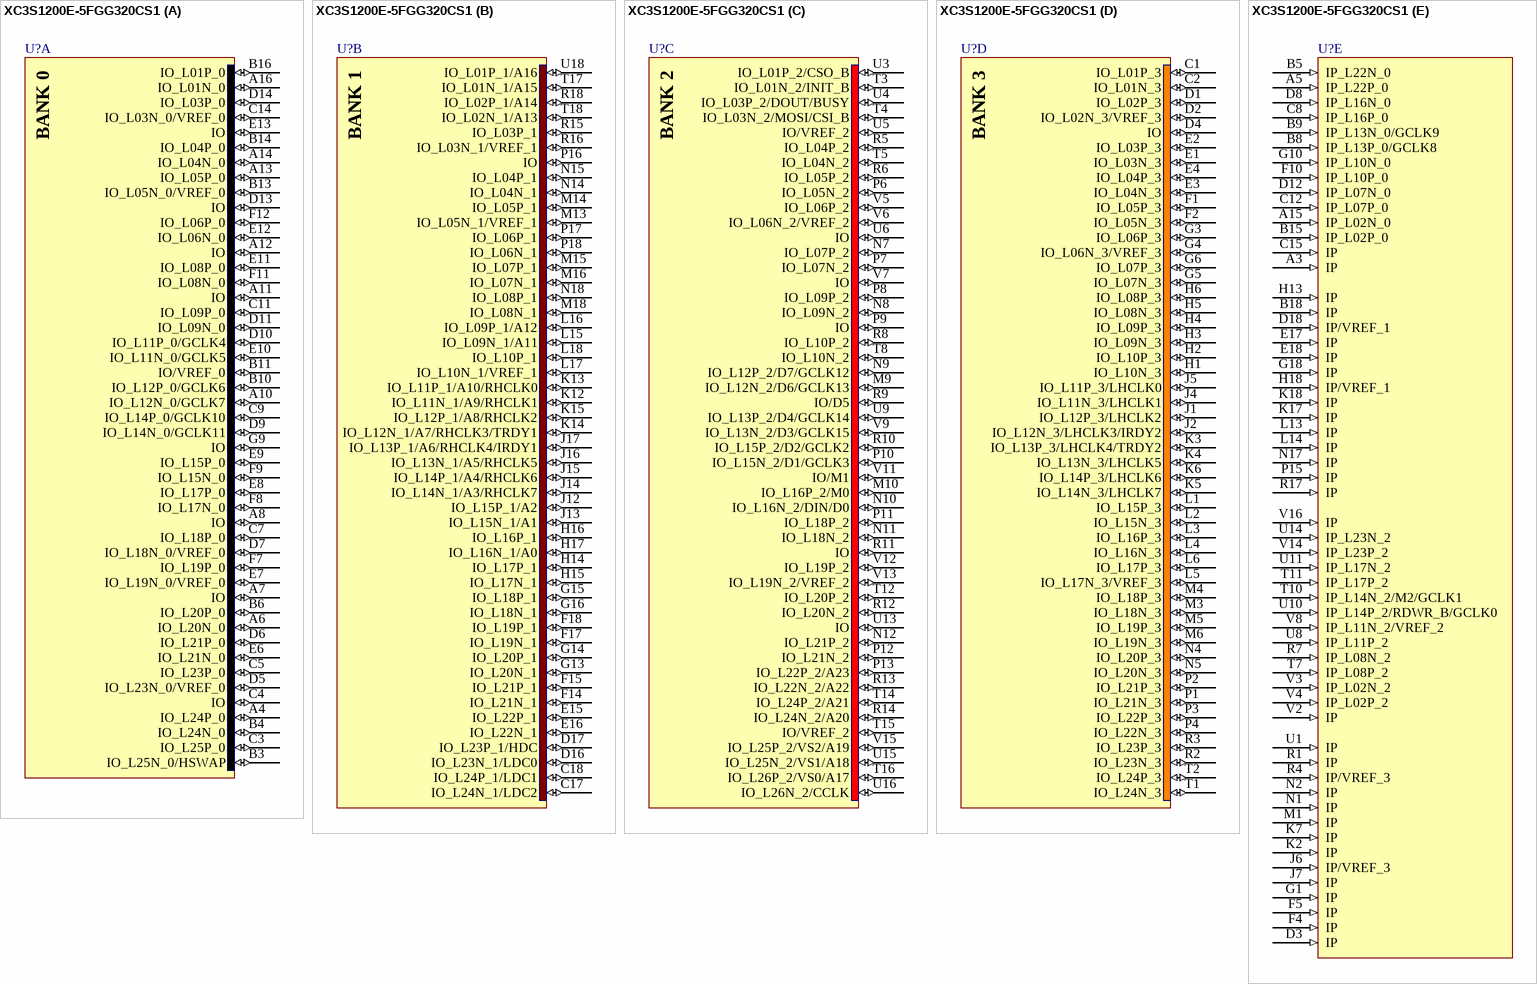
[diagram p131: symbol XC3S1200E-5FGG320CS1]

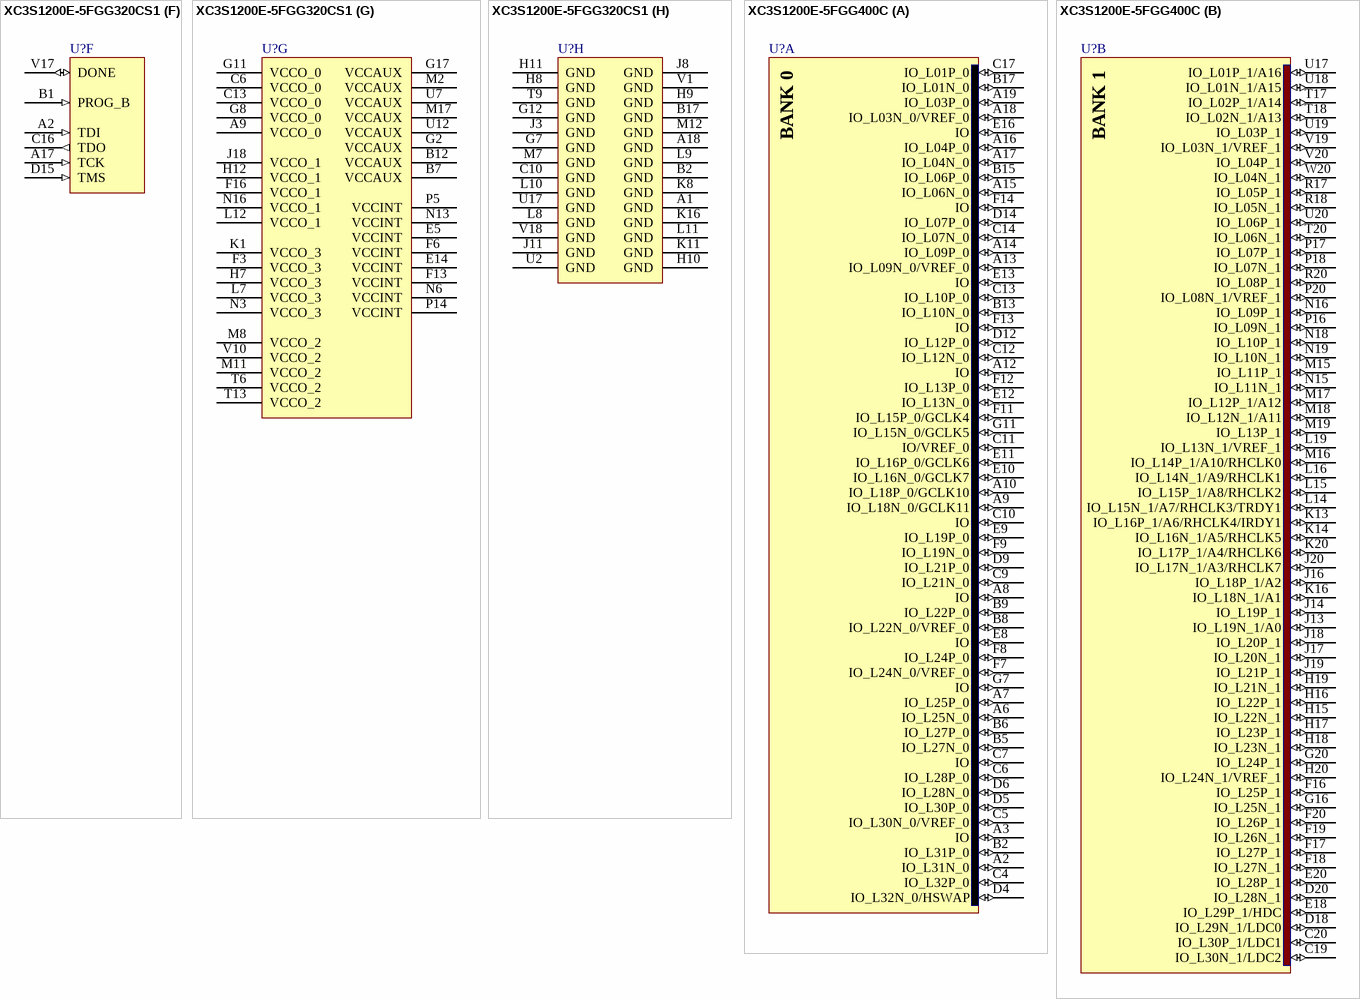
[diagram p132: symbols XC3S1200E-5FGG320CS1 to XC3S1200E-5FGG400C]

## XC3S1200E-5FGG320CS1
designator U?
Spartan-3E 1.2V FPGA, 250 User I/Os, 320-Ball FBGA, High Performance, Commercial Grade, Stepping 1, Pb-Free; Published: 14-May-2007; LatestRevisionDate: 30-Oct-2009; LatestRevisionNote: Updated to datasheet version 3.8 Aug-2009.; DatasheetVersion: ver3.8, Aug-2009; PackageVersion: ver1.2.1, Mar-2005; PackageReference: FGG320; Publisher: Altium Limited; PackageDescription: 320-Ball Fine Pitch Ball Grid Array (FGG320) - Pb-Free; Code_JEDEC: MS-034-AAG-1; ComponentLink1Description: Spartan-3E Datasheet; ComponentLink1URL: http://www.xilinx.com/support/documentation/data_sheets/ds312.pdf; ComponentLink2Description: FGG320 Package Drawing; ComponentLink2URL: http://www.xilinx.com/support/documentation/package_specs/fg320.pdf; ComponentLink3Description: Spartan-3E Documents; ComponentLink3URL: http://www.xilinx.com/support/documentation/spartan-3e.htm; ComponentLink4Description: Xilinx.com Home; ComponentLink4URL: http://www.xilinx.com
footprint FGG320 (BGA, 320-Leads, Body 19x19mm, Pitch 1mm)
signal-integrity model XC3S1200E_FGG320 (Spartan-3E)
part A pins: A4 IO_L24P_0 (io), A6 IO_L20N_0 (io), A7 IO (io), A8 IO (io), A10 IO_L12N_0/GCLK7 (io), A11 IO (io), A12 IO (io), A13 IO_L05P_0 (io), A14 IO_L04N_0 (io), A16 IO_L01N_0 (io), B3 IO_L25N_0/HSWAP (io), B4 IO_L24N_0 (io), B6 IO_L20P_0 (io), B10 IO_L12P_0/GCLK6 (io), B11 IO/VREF_0 (io), B13 IO_L05N_0/VREF_0 (io), B14 IO_L04P_0 (io), B16 IO_L01P_0 (io), C3 IO_L25P_0 (io), C4 IO (io), C5 IO_L23P_0 (io), C7 IO_L18P_0 (io), C9 IO_L14P_0/GCLK10 (io), C11 IO_L09P_0 (io), C14 IO_L03N_0/VREF_0 (io), D5 IO_L23N_0/VREF_0 (io), D6 IO_L21P_0 (io), D7 IO_L18N_0/VREF_0 (io), D9 IO_L14N_0/GCLK11 (io), D10 IO_L11P_0/GCLK4 (io), D11 IO_L09N_0 (io), D13 IO (io), D14 IO_L03P_0 (io), E6 IO_L21N_0 (io), E7 IO_L19N_0/VREF_0 (io), E8 IO_L17P_0 (io), E9 IO_L15P_0 (io), E10 IO_L11N_0/GCLK5 (io), E11 IO_L08P_0 (io), E12 IO_L06N_0 (io), E13 IO (io), F7 IO_L19P_0 (io), F8 IO_L17N_0 (io), F9 IO_L15N_0 (io), F11 IO_L08N_0 (io), F12 IO_L06P_0 (io), G9 IO (io)
part B pins: C17 IO_L24N_1/LDC2 (io), C18 IO_L24P_1/LDC1 (io), D16 IO_L23N_1/LDC0 (io), D17 IO_L23P_1/HDC (io), E15 IO_L22P_1 (io), E16 IO_L22N_1 (io), F14 IO_L21N_1 (io), F15 IO_L21P_1 (io), F17 IO_L19N_1 (io), F18 IO_L19P_1 (io), G13 IO_L20N_1 (io), G14 IO_L20P_1 (io), G15 IO_L18P_1 (io), G16 IO_L18N_1 (io), H14 IO_L17P_1 (io), H15 IO_L17N_1 (io), H16 IO_L16P_1 (io), H17 IO_L16N_1/A0 (io), J12 IO_L15P_1/A2 (io), J13 IO_L15N_1/A1 (io), J14 IO_L14N_1/A3/RHCLK7 (io), J15 IO_L14P_1/A4/RHCLK6 (io), J16 IO_L13N_1/A5/RHCLK5 (io), J17 IO_L13P_1/A6/RHCLK4/IRDY1 (io), K12 IO_L11N_1/A9/RHCLK1 (io), K13 IO_L11P_1/A10/RHCLK0 (io), K14 IO_L12N_1/A7/RHCLK3/TRDY1 (io), K15 IO_L12P_1/A8/RHCLK2 (io), L15 IO_L09N_1/A11 (io), L16 IO_L09P_1/A12 (io), L17 IO_L10N_1/VREF_1 (io), L18 IO_L10P_1 (io), M13 IO_L05N_1/VREF_1 (io), M14 IO_L05P_1 (io), M15 IO_L07P_1 (io), M16 IO_L07N_1 (io), M18 IO_L08N_1 (io), N14 IO_L04N_1 (io), N15 IO_L04P_1 (io), N18 IO_L08P_1 (io), P16 IO (io), P17 IO_L06P_1 (io), P18 IO_L06N_1 (io), R15 IO_L03P_1 (io), R16 IO_L03N_1/VREF_1 (io), R18 IO_L02P_1/A14 (io), T17 IO_L01N_1/A15 (io), T18 IO_L02N_1/A13 (io), U18 IO_L01P_1/A16 (io)
part C pins: M9 IO_L12N_2/D6/GCLK13 (io), M10 IO_L16P_2/M0 (io), N7 IO_L07P_2 (io), N8 IO_L09N_2 (io), N9 IO_L12P_2/D7/GCLK12 (io), N10 IO_L16N_2/DIN/D0 (io), N11 IO_L18N_2 (io), N12 IO_L21P_2 (io), P6 IO_L05N_2 (io), P7 IO_L07N_2 (io), P8 IO_L09P_2 (io), P9 IO (io), P10 IO_L15N_2/D1/GCLK3 (io), P11 IO_L18P_2 (io), P12 IO_L21N_2 (io), P13 IO_L22P_2/A23 (io), R5 IO_L04P_2 (io), R6 IO_L05P_2 (io), R8 IO_L10P_2 (io), R9 IO/D5 (io), R10 IO_L15P_2/D2/GCLK2 (io), R11 IO (io), R12 IO_L20N_2 (io), R13 IO_L22N_2/A22 (io), R14 IO_L24N_2/A20 (io), T3 IO_L01N_2/INIT_B (io), T4 IO_L03N_2/MOSI/CSI_B (io), T5 IO_L04N_2 (io), T8 IO_L10N_2 (io), T12 IO_L20P_2 (io), T14 IO_L24P_2/A21 (io), T15 IO/VREF_2 (io), T16 IO_L26P_2/VS0/A17 (io), U3 IO_L01P_2/CSO_B (io), U4 IO_L03P_2/DOUT/BUSY (io), U5 IO/VREF_2 (io), U6 IO (io), U9 IO_L13P_2/D4/GCLK14 (io), U13 IO (io), U15 IO_L25N_2/VS1/A18 (io), U16 IO_L26N_2/CCLK (io), V5 IO_L06P_2 (io), V6 IO_L06N_2/VREF_2 (io), V7 IO (io), V9 IO_L13N_2/D3/GCLK15 (io), V11 IO/M1 (io), V12 IO_L19P_2 (io), V13 IO_L19N_2/VREF_2 (io), V15 IO_L25P_2/VS2/A19 (io)
part D pins: C1 IO_L01P_3 (io), C2 IO_L01N_3 (io), D1 IO_L02P_3 (io), D2 IO_L02N_3/VREF_3 (io), D4 IO (io), E1 IO_L03N_3 (io), E2 IO_L03P_3 (io), E3 IO_L04N_3 (io), E4 IO_L04P_3 (io), F1 IO_L05P_3 (io), F2 IO_L05N_3 (io), G3 IO_L06P_3 (io), G4 IO_L06N_3/VREF_3 (io), G5 IO_L07N_3 (io), G6 IO_L07P_3 (io), H1 IO_L10N_3 (io), H2 IO_L10P_3 (io), H3 IO_L09N_3 (io), H4 IO_L09P_3 (io), H5 IO_L08N_3 (io), H6 IO_L08P_3 (io), J1 IO_L12P_3/LHCLK2 (io), J2 IO_L12N_3/LHCLK3/IRDY2 (io), J4 IO_L11N_3/LHCLK1 (io), J5 IO_L11P_3/LHCLK0 (io), K3 IO_L13P_3/LHCLK4/TRDY2 (io), K4 IO_L13N_3/LHCLK5 (io), K5 IO_L14N_3/LHCLK7 (io), K6 IO_L14P_3/LHCLK6 (io), L1 IO_L15P_3 (io), L2 IO_L15N_3 (io), L3 IO_L16P_3 (io), L4 IO_L16N_3 (io), L5 IO_L17N_3/VREF_3 (io), L6 IO_L17P_3 (io), M3 IO_L18N_3 (io), M4 IO_L18P_3 (io), M5 IO_L19P_3 (io), M6 IO_L19N_3 (io), N4 IO_L20P_3 (io), N5 IO_L20N_3 (io), P1 IO_L21N_3 (io), P2 IO_L21P_3 (io), P3 IO_L22P_3 (io), P4 IO_L22N_3 (io), R2 IO_L23N_3 (io), R3 IO_L23P_3 (io), T1 IO_L24N_3 (io), T2 IO_L24P_3 (io)
part E pins: A3 IP (in), A5 IP_L22P_0 (in), A15 IP_L02N_0 (in), B5 IP_L22N_0 (in), B8 IP_L13P_0/GCLK8 (in), B9 IP_L13N_0/GCLK9 (in), B15 IP_L02P_0 (in), B18 IP (in), C8 IP_L16P_0 (in), C12 IP_L07P_0 (in), C15 IP (in), D3 IP (in), D8 IP_L16N_0 (in), D12 IP_L07N_0 (in), D18 IP/VREF_1 (in), E17 IP (in), E18 IP (in), F4 IP (in), F5 IP (in), F10 IP_L10P_0 (in), G1 IP (in), G10 IP_L10N_0 (in), G18 IP (in), H13 IP (in), H18 IP/VREF_1 (in), J6 IP/VREF_3 (in), J7 IP (in), K2 IP (in), K7 IP (in), K17 IP (in), K18 IP (in), L13 IP (in), L14 IP (in), M1 IP (in), N1 IP (in), N2 IP (in), N17 IP (in), P15 IP (in), R1 IP (in), R4 IP/VREF_3 (in), R7 IP_L08N_2 (in), R17 IP (in), T7 IP_L08P_2 (in), T10 IP_L14N_2/M2/GCLK1 (in), T11 IP_L17P_2 (in), U1 IP (in), U8 IP_L11P_2 (in), U10 IP_L14P_2/RDWR_B/GCLK0 (in), U11 IP_L17N_2 (in), U14 IP_L23N_2 (in), V2 IP (in), V3 IP_L02N_2 (in), V4 IP_L02P_2 (in), V8 IP_L11N_2/VREF_2 (in), V14 IP_L23P_2 (in), V16 IP (in)
part F pins: A2 TDI (in), A17 TCK (in), B1 PROG_B (in), C16 TDO (out), D15 TMS (in), V17 DONE (io)
part G pins: A9 VCCO_0 (power), B7 VCCAUX (power), B12 VCCAUX (power), C6 VCCO_0 (power), C13 VCCO_0 (power), E5 VCCINT (power), E14 VCCINT (power), F3 VCCO_3 (power), F6 VCCINT (power), F13 VCCINT (power), F16 VCCO_1 (power), G2 VCCAUX (power), G8 VCCO_0 (power), G11 VCCO_0 (power), G17 VCCAUX (power), H7 VCCO_3 (power), H12 VCCO_1 (power), J18 VCCO_1 (power), K1 VCCO_3 (power), L7 VCCO_3 (power), L12 VCCO_1 (power), M2 VCCAUX (power), M8 VCCO_2 (power), M11 VCCO_2 (power), M17 VCCAUX (power), N3 VCCO_3 (power), N6 VCCINT (power), N13 VCCINT (power), N16 VCCO_1 (power), P5 VCCINT (power), P14 VCCINT (power), T6 VCCO_2 (power), T13 VCCO_2 (power), U7 VCCAUX (power), U12 VCCAUX (power), V10 VCCO_2 (power)
part H pins: A1 GND (power), A18 GND (power), B2 GND (power), B17 GND (power), C10 GND (power), G7 GND (power), G12 GND (power), H8 GND (power), H9 GND (power), H10 GND (power), H11 GND (power), J3 GND (power), J8 GND (power), J11 GND (power), K8 GND (power), K11 GND (power), K16 GND (power), L8 GND (power), L9 GND (power), L10 GND (power), L11 GND (power), M7 GND (power), M12 GND (power), T9 GND (power), U2 GND (power), U17 GND (power), V1 GND (power), V18 GND (power)
part A text: BANK 0
part B text: BANK 1
part C text: BANK 2
part D text: BANK 3

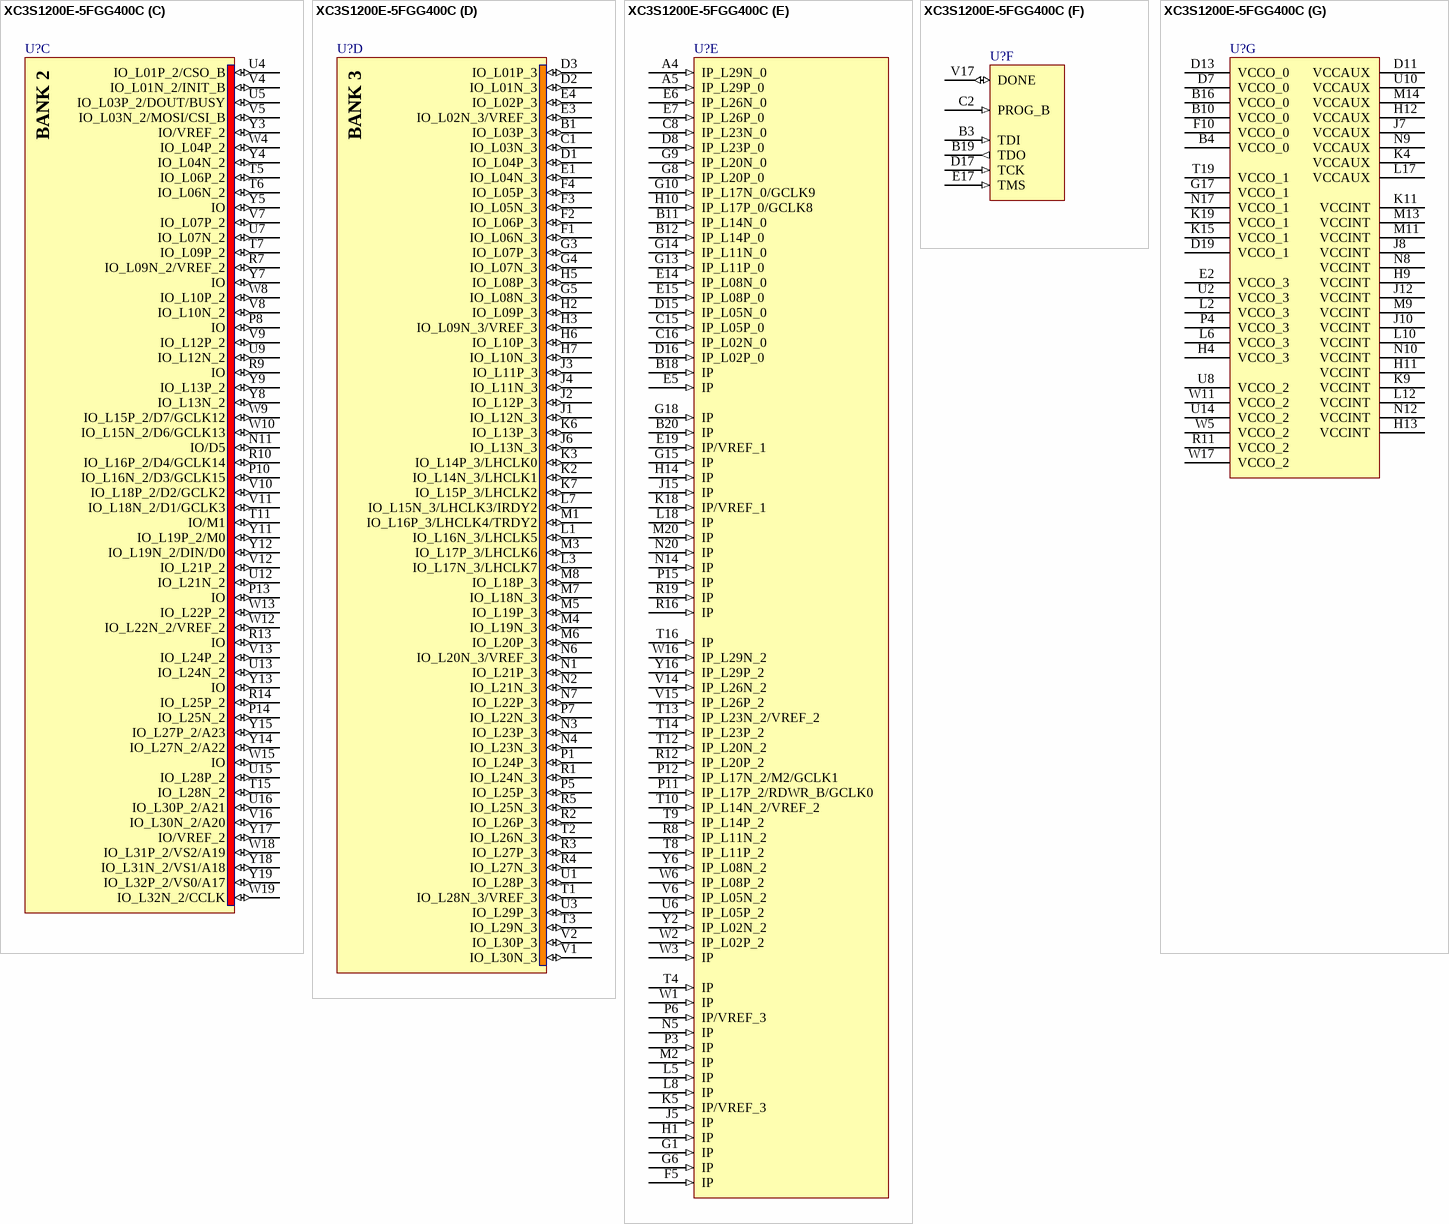
[diagram p133: symbol XC3S1200E-5FGG400C]

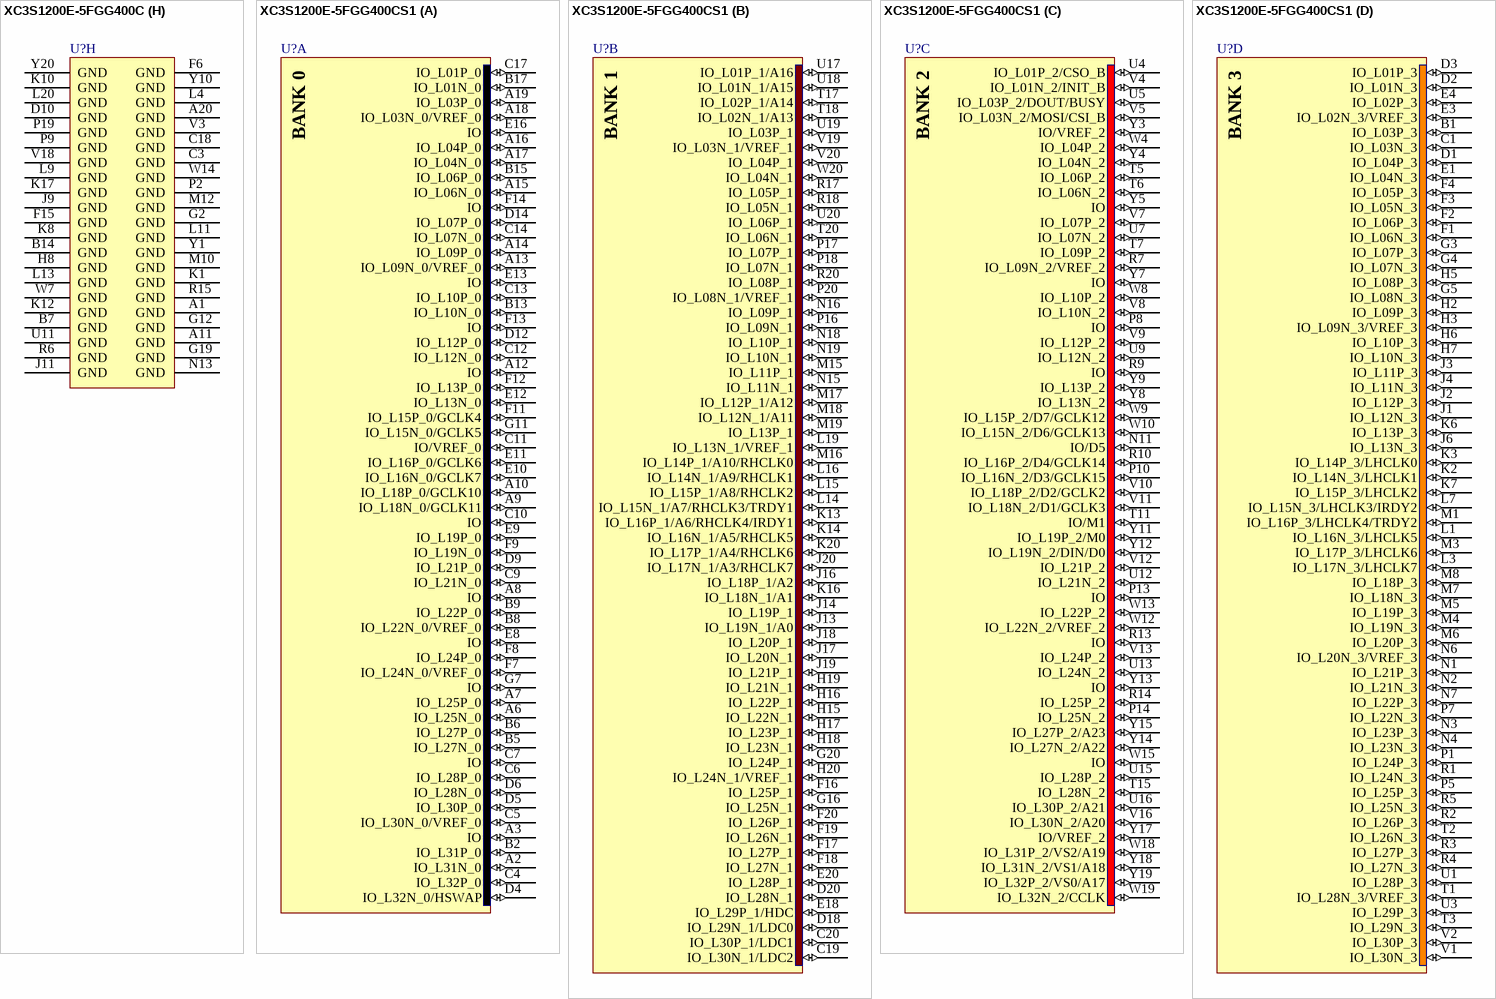
[diagram p134: symbols XC3S1200E-5FGG400C to XC3S1200E-5FGG400CS1]

## XC3S1200E-5FGG400C
designator U?
Spartan-3E 1.2V FPGA, 304 User I/Os, 400-Ball FBGA, High Performance, Commercial Grade, Pb-Free; Published: 6-Jun-2005; LatestRevisionDate: 30-Oct-2009; LatestRevisionNote: Updated to datasheet version 3.8 Aug-2009.; DatasheetVersion: ver3.8, Aug-2009; PackageVersion: ver1.0, Mar-2005; PackageReference: FGG400; Publisher: Altium Limited; PackageDescription: 400-Ball Fine Pitch Ball Grid Array 1.00 mm Pitch (FGG400) - Pb-Free; Supplier 1: Digi-Key; Supplier Part Number 1: XC3S1200E-5FGG400C-ND; Code_JEDEC: MS-034-AAH-1; Code_IPC: BGA100P20X20-400; ComponentLink1Description: Spartan-3E Datasheet; ComponentLink1URL: http://www.xilinx.com/support/documentation/data_sheets/ds312.pdf; ComponentLink2Description: FGG400 Package Drawing; ComponentLink2URL: http://www.xilinx.com/support/documentation/package_specs/fg400.pdf; ComponentLink3Description: Spartan-3E Documents; ComponentLink3URL: http://www.xilinx.com/support/documentation/spartan-3e.htm; ComponentLink4Description: Xilinx.com Home; ComponentLink4URL: http://www.xilinx.com
footprint FGG400 (BGA, 400-Leads, Body 21x21mm, Pitch 1mm)
signal-integrity model XC3S1200E_FGG400 (Spartan-3E)
part A pins: A2 IO_L31N_0 (io), A3 IO (io), A6 IO_L25N_0 (io), A7 IO_L25P_0 (io), A8 IO (io), A9 IO_L18N_0/GCLK11 (io), A10 IO_L18P_0/GCLK10 (io), A12 IO (io), A13 IO_L09N_0/VREF_0 (io), A14 IO_L09P_0 (io), A15 IO_L06N_0 (io), A16 IO_L04P_0 (io), A17 IO_L04N_0 (io), A18 IO_L03N_0/VREF_0 (io), A19 IO_L03P_0 (io), B2 IO_L31P_0 (io), B5 IO_L27N_0 (io), B6 IO_L27P_0 (io), B8 IO_L22N_0/VREF_0 (io), B9 IO_L22P_0 (io), B13 IO_L10N_0 (io), B15 IO_L06P_0 (io), B17 IO_L01N_0 (io), C4 IO_L32P_0 (io), C5 IO_L30N_0/VREF_0 (io), C6 IO_L28P_0 (io), C7 IO (io), C9 IO_L21N_0 (io), C10 IO (io), C11 IO/VREF_0 (io), C12 IO_L12N_0 (io), C13 IO_L10P_0 (io), C14 IO_L07N_0 (io), C17 IO_L01P_0 (io), D4 IO_L32N_0/HSWAP (io), D5 IO_L30P_0 (io), D6 IO_L28N_0 (io), D9 IO_L21P_0 (io), D12 IO_L12P_0 (io), D14 IO_L07P_0 (io), E8 IO (io), E9 IO_L19P_0 (io), E10 IO_L16N_0/GCLK7 (io), E11 IO_L16P_0/GCLK6 (io), E12 IO_L13N_0 (io), E13 IO (io), E16 IO (io), F7 IO_L24N_0/VREF_0 (io), F8 IO_L24P_0 (io), F9 IO_L19N_0 (io), F11 IO_L15P_0/GCLK4 (io), F12 IO_L13P_0 (io), F13 IO (io), F14 IO (io), G7 IO (io), G11 IO_L15N_0/GCLK5 (io)
part B pins: C19 IO_L30N_1/LDC2 (io), C20 IO_L30P_1/LDC1 (io), D18 IO_L29N_1/LDC0 (io), D20 IO_L28N_1 (io), E18 IO_L29P_1/HDC (io), E20 IO_L28P_1 (io), F16 IO_L25P_1 (io), F17 IO_L27P_1 (io), F18 IO_L27N_1 (io), F19 IO_L26N_1 (io), F20 IO_L26P_1 (io), G16 IO_L25N_1 (io), G20 IO_L24P_1 (io), H15 IO_L22N_1 (io), H16 IO_L22P_1 (io), H17 IO_L23P_1 (io), H18 IO_L23N_1 (io), H19 IO_L21N_1 (io), H20 IO_L24N_1/VREF_1 (io), J13 IO_L19N_1/A0 (io), J14 IO_L19P_1 (io), J16 IO_L18P_1/A2 (io), J17 IO_L20N_1 (io), J18 IO_L20P_1 (io), J19 IO_L21P_1 (io), J20 IO_L17N_1/A3/RHCLK7 (io), K13 IO_L16P_1/A6/RHCLK4/IRDY1 (io), K14 IO_L16N_1/A5/RHCLK5 (io), K16 IO_L18N_1/A1 (io), K20 IO_L17P_1/A4/RHCLK6 (io), L14 IO_L15N_1/A7/RHCLK3/TRDY1 (io), L15 IO_L15P_1/A8/RHCLK2 (io), L16 IO_L14N_1/A9/RHCLK1 (io), L19 IO_L13N_1/VREF_1 (io), M15 IO_L11P_1 (io), M16 IO_L14P_1/A10/RHCLK0 (io), M17 IO_L12P_1/A12 (io), M18 IO_L12N_1/A11 (io), M19 IO_L13P_1 (io), N15 IO_L11N_1 (io), N16 IO_L09P_1 (io), N18 IO_L10P_1 (io), N19 IO_L10N_1 (io), P16 IO_L09N_1 (io), P17 IO_L07P_1 (io), P18 IO_L07N_1 (io), P20 IO_L08N_1/VREF_1 (io), R17 IO_L05P_1 (io), R18 IO_L05N_1 (io), R20 IO_L08P_1 (io), T17 IO_L02P_1/A14 (io), T18 IO_L02N_1/A13 (io), T20 IO_L06N_1 (io), U17 IO_L01P_1/A16 (io), U18 IO_L01N_1/A15 (io), U19 IO_L03P_1 (io), U20 IO_L06P_1 (io), V19 IO_L03N_1/VREF_1 (io), V20 IO_L04P_1 (io), W20 IO_L04N_1 (io)
part C pins: N11 IO/D5 (io), P8 IO (io), P10 IO_L16N_2/D3/GCLK15 (io), P13 IO (io), P14 IO_L25N_2 (io), R7 IO_L09N_2/VREF_2 (io), R9 IO (io), R10 IO_L16P_2/D4/GCLK14 (io), R13 IO (io), R14 IO_L25P_2 (io), T5 IO_L06P_2 (io), T6 IO_L06N_2 (io), T7 IO_L09P_2 (io), T11 IO/M1 (io), T15 IO_L28N_2 (io), U4 IO_L01P_2/CSO_B (io), U5 IO_L03P_2/DOUT/BUSY (io), U7 IO_L07N_2 (io), U9 IO_L12N_2 (io), U12 IO_L21N_2 (io), U13 IO_L24N_2 (io), U15 IO_L28P_2 (io), U16 IO_L30P_2/A21 (io), V4 IO_L01N_2/INIT_B (io), V5 IO_L03N_2/MOSI/CSI_B (io), V7 IO_L07P_2 (io), V8 IO_L10N_2 (io), V9 IO_L12P_2 (io), V10 IO_L18P_2/D2/GCLK2 (io), V11 IO_L18N_2/D1/GCLK3 (io), V12 IO_L21P_2 (io), V13 IO_L24P_2 (io), V16 IO_L30N_2/A20 (io), W4 IO_L04P_2 (io), W8 IO_L10P_2 (io), W9 IO_L15P_2/D7/GCLK12 (io), W10 IO_L15N_2/D6/GCLK13 (io), W12 IO_L22N_2/VREF_2 (io), W13 IO_L22P_2 (io), W15 IO (io), W18 IO_L31P_2/VS2/A19 (io), W19 IO_L32N_2/CCLK (io), Y3 IO/VREF_2 (io), Y4 IO_L04N_2 (io), Y5 IO (io), Y7 IO (io), Y8 IO_L13N_2 (io), Y9 IO_L13P_2 (io), Y11 IO_L19P_2/M0 (io), Y12 IO_L19N_2/DIN/D0 (io), Y13 IO (io), Y14 IO_L27N_2/A22 (io), Y15 IO_L27P_2/A23 (io), Y17 IO/VREF_2 (io), Y18 IO_L31N_2/VS1/A18 (io), Y19 IO_L32P_2/VS0/A17 (io)
part D pins: B1 IO_L03P_3 (io), C1 IO_L03N_3 (io), D1 IO_L04P_3 (io), D2 IO_L01N_3 (io), D3 IO_L01P_3 (io), E1 IO_L04N_3 (io), E3 IO_L02N_3/VREF_3 (io), E4 IO_L02P_3 (io), F1 IO_L06N_3 (io), F2 IO_L06P_3 (io), F3 IO_L05N_3 (io), F4 IO_L05P_3 (io), G3 IO_L07P_3 (io), G4 IO_L07N_3 (io), G5 IO_L08N_3 (io), H2 IO_L09P_3 (io), H3 IO_L09N_3/VREF_3 (io), H5 IO_L08P_3 (io), H6 IO_L10P_3 (io), H7 IO_L10N_3 (io), J1 IO_L12N_3 (io), J2 IO_L12P_3 (io), J3 IO_L11P_3 (io), J4 IO_L11N_3 (io), J6 IO_L13N_3 (io), K2 IO_L14N_3/LHCLK1 (io), K3 IO_L14P_3/LHCLK0 (io), K6 IO_L13P_3 (io), K7 IO_L15P_3/LHCLK2 (io), L1 IO_L16N_3/LHCLK5 (io), L3 IO_L17N_3/LHCLK7 (io), L7 IO_L15N_3/LHCLK3/IRDY2 (io), M1 IO_L16P_3/LHCLK4/TRDY2 (io), M3 IO_L17P_3/LHCLK6 (io), M4 IO_L19N_3 (io), M5 IO_L19P_3 (io), M6 IO_L20P_3 (io), M7 IO_L18N_3 (io), M8 IO_L18P_3 (io), N1 IO_L21P_3 (io), N2 IO_L21N_3 (io), N3 IO_L23P_3 (io), N4 IO_L23N_3 (io), N6 IO_L20N_3/VREF_3 (io), N7 IO_L22P_3 (io), P1 IO_L24P_3 (io), P5 IO_L25P_3 (io), P7 IO_L22N_3 (io), R1 IO_L24N_3 (io), R2 IO_L26P_3 (io), R3 IO_L27P_3 (io), R4 IO_L27N_3 (io), R5 IO_L25N_3 (io), T1 IO_L28N_3/VREF_3 (io), T2 IO_L26N_3 (io), T3 IO_L29N_3 (io), U1 IO_L28P_3 (io), U3 IO_L29P_3 (io), V1 IO_L30N_3 (io), V2 IO_L30P_3 (io)
part E pins: A4 IP_L29N_0 (in), A5 IP_L29P_0 (in), B11 IP_L14N_0 (in), B12 IP_L14P_0 (in), B18 IP (in), B20 IP (in), C8 IP_L23N_0 (in), C15 IP_L05P_0 (in), C16 IP_L02N_0 (in), D8 IP_L23P_0 (in), D15 IP_L05N_0 (in), D16 IP_L02P_0 (in), E5 IP (in), E6 IP_L26N_0 (in), E7 IP_L26P_0 (in), E14 IP_L08N_0 (in), E15 IP_L08P_0 (in), E19 IP/VREF_1 (in), F5 IP (in), G1 IP (in), G6 IP (in), G8 IP_L20P_0 (in), G9 IP_L20N_0 (in), G10 IP_L17N_0/GCLK9 (in), G13 IP_L11P_0 (in), G14 IP_L11N_0 (in), G15 IP (in), G18 IP (in), H1 IP (in), H10 IP_L17P_0/GCLK8 (in), H14 IP (in), J5 IP (in), J15 IP (in), K5 IP/VREF_3 (in), K18 IP/VREF_1 (in), L5 IP (in), L8 IP (in), L18 IP (in), M2 IP (in), M20 IP (in), N5 IP (in), N14 IP (in), N20 IP (in), P3 IP (in), P6 IP/VREF_3 (in), P11 IP_L17P_2/RDWR_B/GCLK0 (in), P12 IP_L17N_2/M2/GCLK1 (in), P15 IP (in), R8 IP_L11N_2 (in), R12 IP_L20P_2 (in), R16 IP (in), R19 IP (in), T4 IP (in), T8 IP_L11P_2 (in), T9 IP_L14P_2 (in), T10 IP_L14N_2/VREF_2 (in), T12 IP_L20N_2 (in), T13 IP_L23N_2/VREF_2 (in), T14 IP_L23P_2 (in), T16 IP (in), U6 IP_L05P_2 (in), V6 IP_L05N_2 (in), V14 IP_L26N_2 (in), V15 IP_L26P_2 (in), W1 IP (in), W2 IP_L02P_2 (in), W3 IP (in), W6 IP_L08P_2 (in), W16 IP_L29N_2 (in), Y2 IP_L02N_2 (in), Y6 IP_L08N_2 (in), Y16 IP_L29P_2 (in)
part F pins: B3 TDI (in), B19 TDO (out), C2 PROG_B (in), D17 TCK (in), E17 TMS (in), V17 DONE (io)
part G pins: B4 VCCO_0 (power), B10 VCCO_0 (power), B16 VCCO_0 (power), D7 VCCO_0 (power), D11 VCCAUX (power), D13 VCCO_0 (power), D19 VCCO_1 (power), E2 VCCO_3 (power), F10 VCCO_0 (power), G17 VCCO_1 (power), H4 VCCO_3 (power), H9 VCCINT (power), H11 VCCINT (power), H12 VCCAUX (power), H13 VCCINT (power), J7 VCCAUX (power), J8 VCCINT (power), J10 VCCINT (power), J12 VCCINT (power), K4 VCCAUX (power), K9 VCCINT (power), K11 VCCINT (power), K15 VCCO_1 (power), K19 VCCO_1 (power), L2 VCCO_3 (power), L6 VCCO_3 (power), L10 VCCINT (power), L12 VCCINT (power), L17 VCCAUX (power), M9 VCCINT (power), M11 VCCINT (power), M13 VCCINT (power), M14 VCCAUX (power), N8 VCCINT (power), N9 VCCAUX (power), N10 VCCINT (power), N12 VCCINT (power), N17 VCCO_1 (power), P4 VCCO_3 (power), R11 VCCO_2 (power), T19 VCCO_1 (power), U2 VCCO_3 (power), U8 VCCO_2 (power), U10 VCCAUX (power), U14 VCCO_2 (power), W5 VCCO_2 (power), W11 VCCO_2 (power), W17 VCCO_2 (power)
part H pins: A1 GND (power), A11 GND (power), A20 GND (power), B7 GND (power), B14 GND (power), C3 GND (power), C18 GND (power), D10 GND (power), F6 GND (power), F15 GND (power), G2 GND (power), G12 GND (power), G19 GND (power), H8 GND (power), J9 GND (power), J11 GND (power), K1 GND (power), K8 GND (power), K10 GND (power), K12 GND (power), K17 GND (power), L4 GND (power), L9 GND (power), L11 GND (power), L13 GND (power), L20 GND (power), M10 GND (power), M12 GND (power), N13 GND (power), P2 GND (power), P9 GND (power), P19 GND (power), R6 GND (power), R15 GND (power), U11 GND (power), V3 GND (power), V18 GND (power), W7 GND (power), W14 GND (power), Y1 GND (power), Y10 GND (power), Y20 GND (power)
part A text: BANK 0
part B text: BANK 1
part C text: BANK 2
part D text: BANK 3

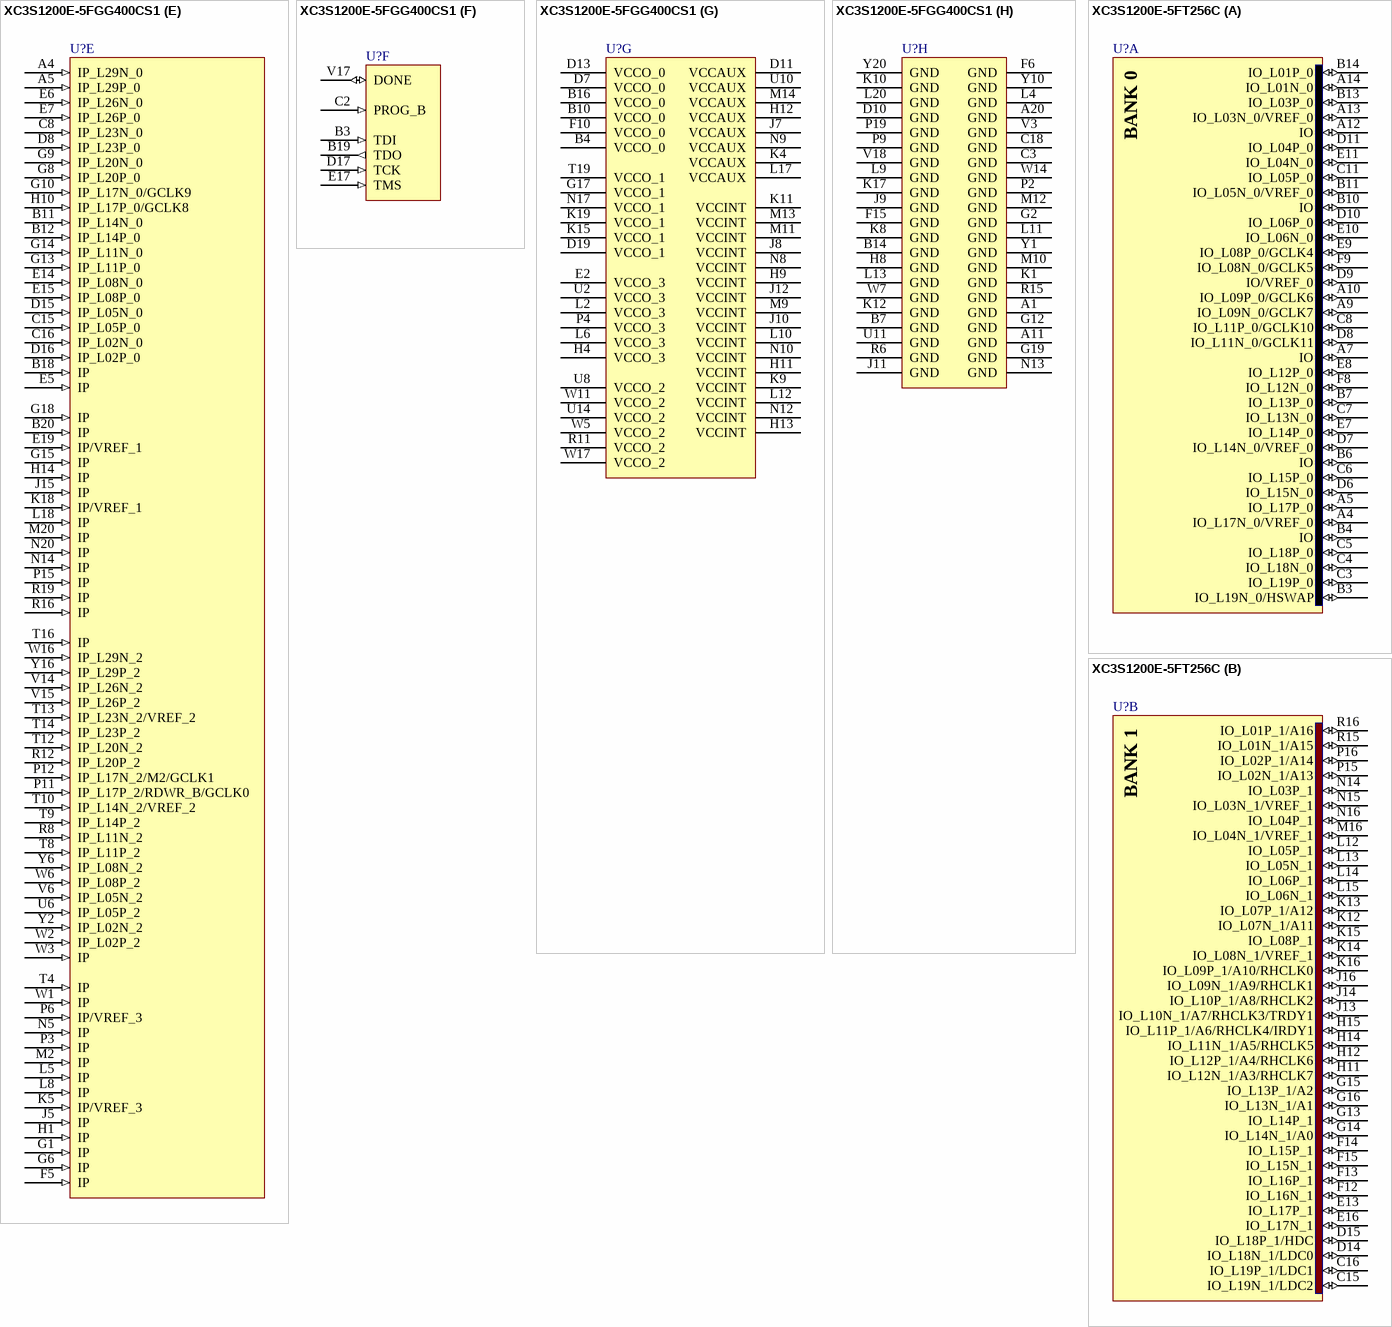
[diagram p135: symbols XC3S1200E-5FGG400CS1 to XC3S1200E-5FT256C]